# Altium integrated library Altera MAX V.IntLib: 184 symbols (part 13 of 16)
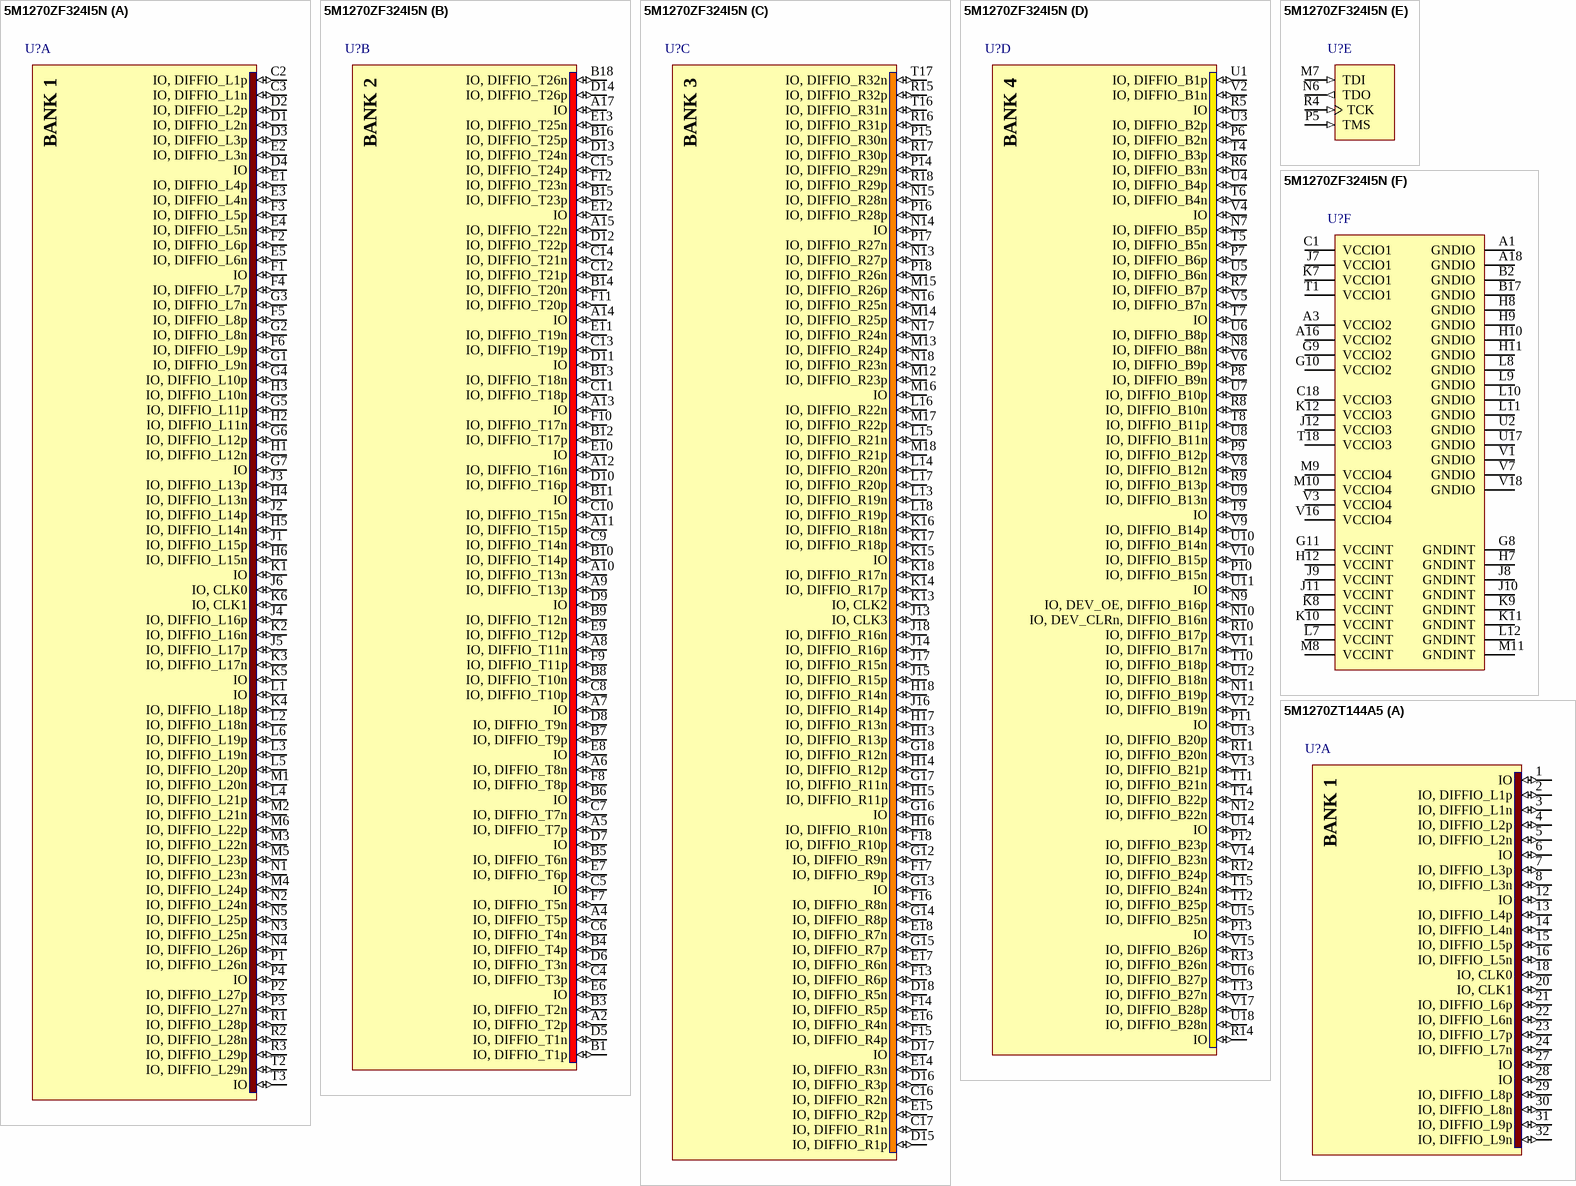
[diagram p89: symbols 5M1270ZF324I5N to 5M1270ZT144A5]

## 5M1270ZF324I5N
designator U?
MAX V 1.8V CPLD, 271 IOs, 1270 Logic Elements, 324-Pin FBGA, Industrial Temperature, Speed Grade 5, Pb-Free; DatasheetVersion: ver1.2, May-2011; PackageVersion: ver1.0, Jun-2011; PackageReference: FBGA324_A-155; PackageDescription: 324-Pin FineLine Ball-Grid Array (FBGA) - THIN - Wire Bond - A:1.55; Code_JEDEC: MO-192-DAG-1; ComponentLink1Description: Manufacturer URL; ComponentLink1URL: http://www.altera.com/; ComponentLink2Description: Datasheet; ComponentLink2URL: http://www.altera.com/literature/hb/max-v/max5_handbook.pdf; ComponentLink3Description: MAX V Device Pin-Out files; ComponentLink3URL: http://www.altera.com/literature/lit-dp.jsp?category=MAX%205&showspreadsheet=y; ComponentLink4Description: Package Specification; ComponentLink4URL: http://www.altera.com/devicepackaging/04R00232-01.pdf
footprint FBGA324_A-155 (BGA, 324-Leads, Body 19x19mm, Pitch 1mm)
part A pins: C2 IO, DIFFIO_L1p (io), C3 IO, DIFFIO_L1n (io), D1 IO, DIFFIO_L2n (io), D2 IO, DIFFIO_L2p (io), D3 IO, DIFFIO_L3p (io), D4 IO (io), E1 IO, DIFFIO_L4p (io), E2 IO, DIFFIO_L3n (io), E3 IO, DIFFIO_L4n (io), E4 IO, DIFFIO_L5n (io), E5 IO, DIFFIO_L6n (io), F1 IO (io), F2 IO, DIFFIO_L6p (io), F3 IO, DIFFIO_L5p (io), F4 IO, DIFFIO_L7p (io), F5 IO, DIFFIO_L8p (io), F6 IO, DIFFIO_L9p (io), G1 IO, DIFFIO_L9n (io), G2 IO, DIFFIO_L8n (io), G3 IO, DIFFIO_L7n (io), G4 IO, DIFFIO_L10p (io), G5 IO, DIFFIO_L11p (io), G6 IO, DIFFIO_L12p (io), G7 IO (io), H1 IO, DIFFIO_L12n (io), H2 IO, DIFFIO_L11n (io), H3 IO, DIFFIO_L10n (io), H4 IO, DIFFIO_L13n (io), H5 IO, DIFFIO_L14n (io), H6 IO, DIFFIO_L15n (io), J1 IO, DIFFIO_L15p (io), J2 IO, DIFFIO_L14p (io), J3 IO, DIFFIO_L13p (io), J4 IO, DIFFIO_L16p (io), J5 IO, DIFFIO_L17p (io), J6 IO, CLK0 (io), K1 IO (io), K2 IO, DIFFIO_L16n (io), K3 IO, DIFFIO_L17n (io), K4 IO, DIFFIO_L18p (io), K5 IO (io), K6 IO, CLK1 (io), L1 IO (io), L2 IO, DIFFIO_L18n (io), L3 IO, DIFFIO_L19n (io), L4 IO, DIFFIO_L21p (io), L5 IO, DIFFIO_L20p (io), L6 IO, DIFFIO_L19p (io), M1 IO, DIFFIO_L20n (io), M2 IO, DIFFIO_L21n (io), M3 IO, DIFFIO_L22n (io), M4 IO, DIFFIO_L24p (io), M5 IO, DIFFIO_L23p (io), M6 IO, DIFFIO_L22p (io), N1 IO, DIFFIO_L23n (io), N2 IO, DIFFIO_L24n (io), N3 IO, DIFFIO_L25n (io), N4 IO, DIFFIO_L26p (io), N5 IO, DIFFIO_L25p (io), P1 IO, DIFFIO_L26n (io), P2 IO, DIFFIO_L27p (io), P3 IO, DIFFIO_L27n (io), P4 IO (io), R1 IO, DIFFIO_L28p (io), R2 IO, DIFFIO_L28n (io), R3 IO, DIFFIO_L29p (io), T2 IO, DIFFIO_L29n (io), T3 IO (io)
part B pins: A2 IO, DIFFIO_T2p (io), A4 IO, DIFFIO_T5p (io), A5 IO, DIFFIO_T7p (io), A6 IO, DIFFIO_T8n (io), A7 IO (io), A8 IO, DIFFIO_T11n (io), A9 IO, DIFFIO_T13p (io), A10 IO, DIFFIO_T13n (io), A11 IO, DIFFIO_T15p (io), A12 IO, DIFFIO_T16n (io), A13 IO (io), A14 IO (io), A15 IO, DIFFIO_T22n (io), A17 IO (io), B1 IO, DIFFIO_T1p (io), B3 IO, DIFFIO_T2n (io), B4 IO, DIFFIO_T4p (io), B5 IO, DIFFIO_T6n (io), B6 IO (io), B7 IO, DIFFIO_T9p (io), B8 IO, DIFFIO_T10n (io), B9 IO, DIFFIO_T12n (io), B10 IO, DIFFIO_T14p (io), B11 IO (io), B12 IO, DIFFIO_T17p (io), B13 IO, DIFFIO_T18n (io), B14 IO, DIFFIO_T20n (io), B15 IO, DIFFIO_T23p (io), B16 IO, DIFFIO_T25p (io), B18 IO, DIFFIO_T26n (io), C4 IO, DIFFIO_T3p (io), C5 IO (io), C6 IO, DIFFIO_T4n (io), C7 IO, DIFFIO_T7n (io), C8 IO, DIFFIO_T10p (io), C9 IO, DIFFIO_T14n (io), C10 IO, DIFFIO_T15n (io), C11 IO, DIFFIO_T18p (io), C12 IO, DIFFIO_T21p (io), C13 IO, DIFFIO_T19p (io), C14 IO, DIFFIO_T21n (io), C15 IO, DIFFIO_T24p (io), D5 IO, DIFFIO_T1n (io), D6 IO, DIFFIO_T3n (io), D7 IO (io), D8 IO, DIFFIO_T9n (io), D9 IO (io), D10 IO, DIFFIO_T16p (io), D11 IO (io), D12 IO, DIFFIO_T22p (io), D13 IO, DIFFIO_T24n (io), D14 IO, DIFFIO_T26p (io), E6 IO (io), E7 IO, DIFFIO_T6p (io), E8 IO (io), E9 IO, DIFFIO_T12p (io), E10 IO (io), E11 IO, DIFFIO_T19n (io), E12 IO (io), E13 IO, DIFFIO_T25n (io), F7 IO, DIFFIO_T5n (io), F8 IO, DIFFIO_T8p (io), F9 IO, DIFFIO_T11p (io), F10 IO, DIFFIO_T17n (io), F11 IO, DIFFIO_T20p (io), F12 IO, DIFFIO_T23n (io)
part C pins: C16 IO, DIFFIO_R2n (io), C17 IO, DIFFIO_R1n (io), D15 IO, DIFFIO_R1p (io), D16 IO, DIFFIO_R3p (io), D17 IO (io), D18 IO, DIFFIO_R5n (io), E14 IO, DIFFIO_R3n (io), E15 IO, DIFFIO_R2p (io), E16 IO, DIFFIO_R4n (io), E17 IO, DIFFIO_R6n (io), E18 IO, DIFFIO_R7n (io), F13 IO, DIFFIO_R6p (io), F14 IO, DIFFIO_R5p (io), F15 IO, DIFFIO_R4p (io), F16 IO, DIFFIO_R8n (io), F17 IO, DIFFIO_R9p (io), F18 IO, DIFFIO_R10p (io), G12 IO, DIFFIO_R9n (io), G13 IO (io), G14 IO, DIFFIO_R8p (io), G15 IO, DIFFIO_R7p (io), G16 IO (io), G17 IO, DIFFIO_R11n (io), G18 IO, DIFFIO_R12n (io), H13 IO, DIFFIO_R13p (io), H14 IO, DIFFIO_R12p (io), H15 IO, DIFFIO_R11p (io), H16 IO, DIFFIO_R10n (io), H17 IO, DIFFIO_R13n (io), H18 IO, DIFFIO_R14n (io), J13 IO, CLK3 (io), J14 IO, DIFFIO_R16p (io), J15 IO, DIFFIO_R15p (io), J16 IO, DIFFIO_R14p (io), J17 IO, DIFFIO_R15n (io), J18 IO, DIFFIO_R16n (io), K13 IO, CLK2 (io), K14 IO, DIFFIO_R17p (io), K15 IO (io), K16 IO, DIFFIO_R18n (io), K17 IO, DIFFIO_R18p (io), K18 IO, DIFFIO_R17n (io), L13 IO, DIFFIO_R19n (io), L14 IO, DIFFIO_R20n (io), L15 IO, DIFFIO_R21n (io), L16 IO, DIFFIO_R22n (io), L17 IO, DIFFIO_R20p (io), L18 IO, DIFFIO_R19p (io), M12 IO, DIFFIO_R23p (io), M13 IO, DIFFIO_R24p (io), M14 IO, DIFFIO_R25p (io), M15 IO, DIFFIO_R26p (io), M16 IO (io), M17 IO, DIFFIO_R22p (io), M18 IO, DIFFIO_R21p (io), N13 IO, DIFFIO_R27p (io), N14 IO (io), N15 IO, DIFFIO_R28n (io), N16 IO, DIFFIO_R25n (io), N17 IO, DIFFIO_R24n (io), N18 IO, DIFFIO_R23n (io), P14 IO, DIFFIO_R29n (io), P15 IO, DIFFIO_R30n (io), P16 IO, DIFFIO_R28p (io), P17 IO, DIFFIO_R27n (io), P18 IO, DIFFIO_R26n (io), R15 IO, DIFFIO_R32p (io), R16 IO, DIFFIO_R31p (io), R17 IO, DIFFIO_R30p (io), R18 IO, DIFFIO_R29p (io), T16 IO, DIFFIO_R31n (io), T17 IO, DIFFIO_R32n (io)
part D pins: N7 IO, DIFFIO_B5p (io), N8 IO, DIFFIO_B8n (io), N9 IO, DEV_OE, DIFFIO_B16p (io), N10 IO, DEV_CLRn, DIFFIO_B16n (io), N11 IO, DIFFIO_B19p (io), N12 IO, DIFFIO_B22n (io), P6 IO, DIFFIO_B2n (io), P7 IO, DIFFIO_B6p (io), P8 IO, DIFFIO_B9n (io), P9 IO, DIFFIO_B12p (io), P10 IO, DIFFIO_B15n (io), P11 IO (io), P12 IO, DIFFIO_B23p (io), P13 IO (io), R5 IO (io), R6 IO, DIFFIO_B3n (io), R7 IO, DIFFIO_B7p (io), R8 IO, DIFFIO_B10n (io), R9 IO, DIFFIO_B13p (io), R10 IO, DIFFIO_B17p (io), R11 IO, DIFFIO_B20n (io), R12 IO, DIFFIO_B24p (io), R13 IO, DIFFIO_B26n (io), R14 IO (io), T4 IO, DIFFIO_B3p (io), T5 IO, DIFFIO_B5n (io), T6 IO, DIFFIO_B4n (io), T7 IO (io), T8 IO, DIFFIO_B11p (io), T9 IO (io), T10 IO, DIFFIO_B18p (io), T11 IO, DIFFIO_B21n (io), T12 IO, DIFFIO_B25p (io), T13 IO, DIFFIO_B27n (io), T14 IO, DIFFIO_B22p (io), T15 IO, DIFFIO_B24n (io), U1 IO, DIFFIO_B1p (io), U3 IO, DIFFIO_B2p (io), U4 IO, DIFFIO_B4p (io), U5 IO, DIFFIO_B6n (io), U6 IO, DIFFIO_B8p (io), U7 IO, DIFFIO_B10p (io), U8 IO, DIFFIO_B11n (io), U9 IO, DIFFIO_B13n (io), U10 IO, DIFFIO_B14n (io), U11 IO (io), U12 IO, DIFFIO_B18n (io), U13 IO, DIFFIO_B20p (io), U14 IO (io), U15 IO, DIFFIO_B25n (io), U16 IO, DIFFIO_B27p (io), U18 IO, DIFFIO_B28n (io), V2 IO, DIFFIO_B1n (io), V4 IO (io), V5 IO, DIFFIO_B7n (io), V6 IO, DIFFIO_B9p (io), V8 IO, DIFFIO_B12n (io), V9 IO, DIFFIO_B14p (io), V10 IO, DIFFIO_B15p (io), V11 IO, DIFFIO_B17n (io), V12 IO, DIFFIO_B19n (io), V13 IO, DIFFIO_B21p (io), V14 IO, DIFFIO_B23n (io), V15 IO, DIFFIO_B26p (io), V17 IO, DIFFIO_B28p (io)
part E pins: M7 TDI (in), N6 TDO (out), P5 TMS (in), R4 TCK (in)
part F pins: A1 GNDIO (power), A3 VCCIO2 (power), A16 VCCIO2 (power), A18 GNDIO (power), B2 GNDIO (power), B17 GNDIO (power), C1 VCCIO1 (power), C18 VCCIO3 (power), G8 GNDINT (power), G9 VCCIO2 (power), G10 VCCIO2 (power), G11 VCCINT (power), H7 GNDINT (power), H8 GNDIO (power), H9 GNDIO (power), H10 GNDIO (power), H11 GNDIO (power), H12 VCCINT (power), J7 VCCIO1 (power), J8 GNDINT (power), J9 VCCINT (power), J10 GNDINT (power), J11 VCCINT (power), J12 VCCIO3 (power), K7 VCCIO1 (power), K8 VCCINT (power), K9 GNDINT (power), K10 VCCINT (power), K11 GNDINT (power), K12 VCCIO3 (power), L7 VCCINT (power), L8 GNDIO (power), L9 GNDIO (power), L10 GNDIO (power), L11 GNDIO (power), L12 GNDINT (power), M8 VCCINT (power), M9 VCCIO4 (power), M10 VCCIO4 (power), M11 GNDINT (power), T1 VCCIO1 (power), T18 VCCIO3 (power), U2 GNDIO (power), U17 GNDIO (power), V1 GNDIO (power), V3 VCCIO4 (power), V7 GNDIO (power), V16 VCCIO4 (power), V18 GNDIO (power)
part A text: BANK 1
part B text: BANK 2
part C text: BANK 3
part D text: BANK 4

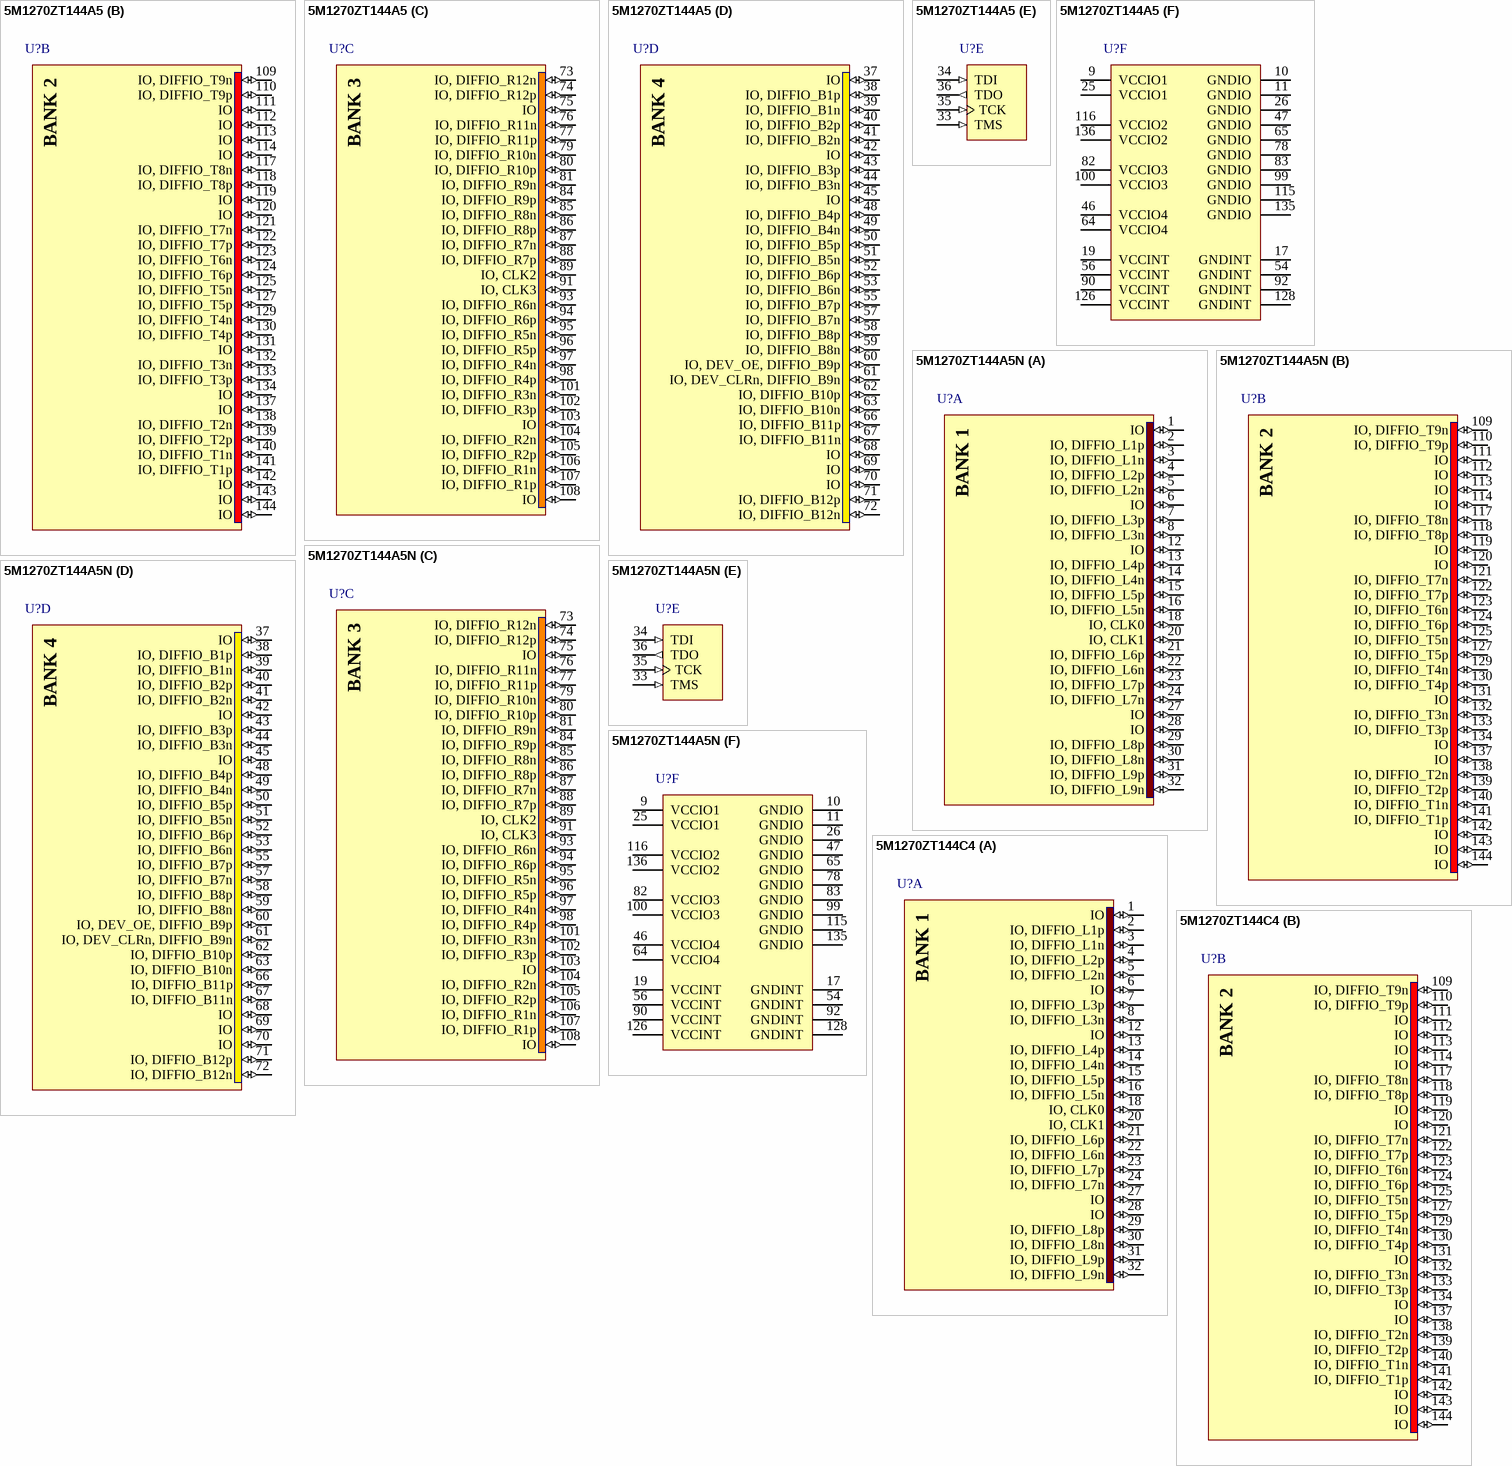
[diagram p59: symbols 5M1270ZT144A5 to 5M1270ZT144C4]

## 5M1270ZT144A5
designator U?
MAX V 1.8V CPLD, 114 IOs, 1270 Logic Elements, 144-Pin TQFP, Automotive Temperature, Speed Grade 5; DatasheetVersion: ver1.2, May-2011; PackageVersion: ver1.0, Jul-2011; PackageReference: TQFP144_A-160; PackageDescription: 144-Pin Plastic Thin Quad Flat Pack (TQFP) - Wire Bond - A:1.60; Code_JEDEC: MS-029-BFB; ComponentLink1Description: Manufacturer URL; ComponentLink1URL: http://www.altera.com/; ComponentLink2Description: Datasheet; ComponentLink2URL: http://www.altera.com/literature/hb/max-v/max5_handbook.pdf; ComponentLink3Description: MAX V Device Pin-Out files; ComponentLink3URL: http://www.altera.com/literature/lit-dp.jsp?category=MAX%205&showspreadsheet=y; ComponentLink4Description: Package Specification; ComponentLink4URL: http://www.altera.com/devicepackaging/04R00366-01.pdf
footprint TQFP144_A-160_N (Thin QFP, 144-Leads, Body 20x20mm, Pitch 0.5mm, IPC Medium Density)
footprint TQFP144_A-160_L (Thin QFP, 144-Leads, Body 20x20mm, Pitch 0.5mm, IPC High Density)
footprint TQFP144_A-160_M (Thin QFP, 144-Leads, Body 20x20mm, Pitch 0.5mm, IPC Low Density)
part A pins: 1 IO (io), 2 IO, DIFFIO_L1p (io), 3 IO, DIFFIO_L1n (io), 4 IO, DIFFIO_L2p (io), 5 IO, DIFFIO_L2n (io), 6 IO (io), 7 IO, DIFFIO_L3p (io), 8 IO, DIFFIO_L3n (io), 12 IO (io), 13 IO, DIFFIO_L4p (io), 14 IO, DIFFIO_L4n (io), 15 IO, DIFFIO_L5p (io), 16 IO, DIFFIO_L5n (io), 18 IO, CLK0 (io), 20 IO, CLK1 (io), 21 IO, DIFFIO_L6p (io), 22 IO, DIFFIO_L6n (io), 23 IO, DIFFIO_L7p (io), 24 IO, DIFFIO_L7n (io), 27 IO (io), 28 IO (io), 29 IO, DIFFIO_L8p (io), 30 IO, DIFFIO_L8n (io), 31 IO, DIFFIO_L9p (io), 32 IO, DIFFIO_L9n (io)
part B pins: 109 IO, DIFFIO_T9n (io), 110 IO, DIFFIO_T9p (io), 111 IO (io), 112 IO (io), 113 IO (io), 114 IO (io), 117 IO, DIFFIO_T8n (io), 118 IO, DIFFIO_T8p (io), 119 IO (io), 120 IO (io), 121 IO, DIFFIO_T7n (io), 122 IO, DIFFIO_T7p (io), 123 IO, DIFFIO_T6n (io), 124 IO, DIFFIO_T6p (io), 125 IO, DIFFIO_T5n (io), 127 IO, DIFFIO_T5p (io), 129 IO, DIFFIO_T4n (io), 130 IO, DIFFIO_T4p (io), 131 IO (io), 132 IO, DIFFIO_T3n (io), 133 IO, DIFFIO_T3p (io), 134 IO (io), 137 IO (io), 138 IO, DIFFIO_T2n (io), 139 IO, DIFFIO_T2p (io), 140 IO, DIFFIO_T1n (io), 141 IO, DIFFIO_T1p (io), 142 IO (io), 143 IO (io), 144 IO (io)
part C pins: 73 IO, DIFFIO_R12n (io), 74 IO, DIFFIO_R12p (io), 75 IO (io), 76 IO, DIFFIO_R11n (io), 77 IO, DIFFIO_R11p (io), 79 IO, DIFFIO_R10n (io), 80 IO, DIFFIO_R10p (io), 81 IO, DIFFIO_R9n (io), 84 IO, DIFFIO_R9p (io), 85 IO, DIFFIO_R8n (io), 86 IO, DIFFIO_R8p (io), 87 IO, DIFFIO_R7n (io), 88 IO, DIFFIO_R7p (io), 89 IO, CLK2 (io), 91 IO, CLK3 (io), 93 IO, DIFFIO_R6n (io), 94 IO, DIFFIO_R6p (io), 95 IO, DIFFIO_R5n (io), 96 IO, DIFFIO_R5p (io), 97 IO, DIFFIO_R4n (io), 98 IO, DIFFIO_R4p (io), 101 IO, DIFFIO_R3n (io), 102 IO, DIFFIO_R3p (io), 103 IO (io), 104 IO, DIFFIO_R2n (io), 105 IO, DIFFIO_R2p (io), 106 IO, DIFFIO_R1n (io), 107 IO, DIFFIO_R1p (io), 108 IO (io)
part D pins: 37 IO (io), 38 IO, DIFFIO_B1p (io), 39 IO, DIFFIO_B1n (io), 40 IO, DIFFIO_B2p (io), 41 IO, DIFFIO_B2n (io), 42 IO (io), 43 IO, DIFFIO_B3p (io), 44 IO, DIFFIO_B3n (io), 45 IO (io), 48 IO, DIFFIO_B4p (io), 49 IO, DIFFIO_B4n (io), 50 IO, DIFFIO_B5p (io), 51 IO, DIFFIO_B5n (io), 52 IO, DIFFIO_B6p (io), 53 IO, DIFFIO_B6n (io), 55 IO, DIFFIO_B7p (io), 57 IO, DIFFIO_B7n (io), 58 IO, DIFFIO_B8p (io), 59 IO, DIFFIO_B8n (io), 60 IO, DEV_OE, DIFFIO_B9p (io), 61 IO, DEV_CLRn, DIFFIO_B9n (io), 62 IO, DIFFIO_B10p (io), 63 IO, DIFFIO_B10n (io), 66 IO, DIFFIO_B11p (io), 67 IO, DIFFIO_B11n (io), 68 IO (io), 69 IO (io), 70 IO (io), 71 IO, DIFFIO_B12p (io), 72 IO, DIFFIO_B12n (io)
part E pins: 33 TMS (in), 34 TDI (in), 35 TCK (in), 36 TDO (out)
part F pins: 9 VCCIO1 (power), 10 GNDIO (power), 11 GNDIO (power), 17 GNDINT (power), 19 VCCINT (power), 25 VCCIO1 (power), 26 GNDIO (power), 46 VCCIO4 (power), 47 GNDIO (power), 54 GNDINT (power), 56 VCCINT (power), 64 VCCIO4 (power), 65 GNDIO (power), 78 GNDIO (power), 82 VCCIO3 (power), 83 GNDIO (power), 90 VCCINT (power), 92 GNDINT (power), 99 GNDIO (power), 100 VCCIO3 (power), 115 GNDIO (power), 116 VCCIO2 (power), 126 VCCINT (power), 128 GNDINT (power), 135 GNDIO (power), 136 VCCIO2 (power)
part A text: BANK 1
part B text: BANK 2
part C text: BANK 3
part D text: BANK 4

## 5M1270ZT144A5N
designator U?
MAX V 1.8V CPLD, 114 IOs, 1270 Logic Elements, 144-Pin TQFP, Automotive Temperature, Speed Grade 5, Pb-Free; DatasheetVersion: ver1.2, May-2011; PackageVersion: ver1.0, Jul-2011; PackageReference: TQFP144_A-160; PackageDescription: 144-Pin Plastic Thin Quad Flat Pack (TQFP) - Wire Bond - A:1.60; Code_JEDEC: MS-029-BFB; ComponentLink1Description: Manufacturer URL; ComponentLink1URL: http://www.altera.com/; ComponentLink2Description: Datasheet; ComponentLink2URL: http://www.altera.com/literature/hb/max-v/max5_handbook.pdf; ComponentLink3Description: MAX V Device Pin-Out files; ComponentLink3URL: http://www.altera.com/literature/lit-dp.jsp?category=MAX%205&showspreadsheet=y; ComponentLink4Description: Package Specification; ComponentLink4URL: http://www.altera.com/devicepackaging/04R00366-01.pdf
footprint TQFP144_A-160_N (Thin QFP, 144-Leads, Body 20x20mm, Pitch 0.5mm, IPC Medium Density)
footprint TQFP144_A-160_L (Thin QFP, 144-Leads, Body 20x20mm, Pitch 0.5mm, IPC High Density)
footprint TQFP144_A-160_M (Thin QFP, 144-Leads, Body 20x20mm, Pitch 0.5mm, IPC Low Density)
part A pins: 1 IO (io), 2 IO, DIFFIO_L1p (io), 3 IO, DIFFIO_L1n (io), 4 IO, DIFFIO_L2p (io), 5 IO, DIFFIO_L2n (io), 6 IO (io), 7 IO, DIFFIO_L3p (io), 8 IO, DIFFIO_L3n (io), 12 IO (io), 13 IO, DIFFIO_L4p (io), 14 IO, DIFFIO_L4n (io), 15 IO, DIFFIO_L5p (io), 16 IO, DIFFIO_L5n (io), 18 IO, CLK0 (io), 20 IO, CLK1 (io), 21 IO, DIFFIO_L6p (io), 22 IO, DIFFIO_L6n (io), 23 IO, DIFFIO_L7p (io), 24 IO, DIFFIO_L7n (io), 27 IO (io), 28 IO (io), 29 IO, DIFFIO_L8p (io), 30 IO, DIFFIO_L8n (io), 31 IO, DIFFIO_L9p (io), 32 IO, DIFFIO_L9n (io)
part B pins: 109 IO, DIFFIO_T9n (io), 110 IO, DIFFIO_T9p (io), 111 IO (io), 112 IO (io), 113 IO (io), 114 IO (io), 117 IO, DIFFIO_T8n (io), 118 IO, DIFFIO_T8p (io), 119 IO (io), 120 IO (io), 121 IO, DIFFIO_T7n (io), 122 IO, DIFFIO_T7p (io), 123 IO, DIFFIO_T6n (io), 124 IO, DIFFIO_T6p (io), 125 IO, DIFFIO_T5n (io), 127 IO, DIFFIO_T5p (io), 129 IO, DIFFIO_T4n (io), 130 IO, DIFFIO_T4p (io), 131 IO (io), 132 IO, DIFFIO_T3n (io), 133 IO, DIFFIO_T3p (io), 134 IO (io), 137 IO (io), 138 IO, DIFFIO_T2n (io), 139 IO, DIFFIO_T2p (io), 140 IO, DIFFIO_T1n (io), 141 IO, DIFFIO_T1p (io), 142 IO (io), 143 IO (io), 144 IO (io)
part C pins: 73 IO, DIFFIO_R12n (io), 74 IO, DIFFIO_R12p (io), 75 IO (io), 76 IO, DIFFIO_R11n (io), 77 IO, DIFFIO_R11p (io), 79 IO, DIFFIO_R10n (io), 80 IO, DIFFIO_R10p (io), 81 IO, DIFFIO_R9n (io), 84 IO, DIFFIO_R9p (io), 85 IO, DIFFIO_R8n (io), 86 IO, DIFFIO_R8p (io), 87 IO, DIFFIO_R7n (io), 88 IO, DIFFIO_R7p (io), 89 IO, CLK2 (io), 91 IO, CLK3 (io), 93 IO, DIFFIO_R6n (io), 94 IO, DIFFIO_R6p (io), 95 IO, DIFFIO_R5n (io), 96 IO, DIFFIO_R5p (io), 97 IO, DIFFIO_R4n (io), 98 IO, DIFFIO_R4p (io), 101 IO, DIFFIO_R3n (io), 102 IO, DIFFIO_R3p (io), 103 IO (io), 104 IO, DIFFIO_R2n (io), 105 IO, DIFFIO_R2p (io), 106 IO, DIFFIO_R1n (io), 107 IO, DIFFIO_R1p (io), 108 IO (io)
part D pins: 37 IO (io), 38 IO, DIFFIO_B1p (io), 39 IO, DIFFIO_B1n (io), 40 IO, DIFFIO_B2p (io), 41 IO, DIFFIO_B2n (io), 42 IO (io), 43 IO, DIFFIO_B3p (io), 44 IO, DIFFIO_B3n (io), 45 IO (io), 48 IO, DIFFIO_B4p (io), 49 IO, DIFFIO_B4n (io), 50 IO, DIFFIO_B5p (io), 51 IO, DIFFIO_B5n (io), 52 IO, DIFFIO_B6p (io), 53 IO, DIFFIO_B6n (io), 55 IO, DIFFIO_B7p (io), 57 IO, DIFFIO_B7n (io), 58 IO, DIFFIO_B8p (io), 59 IO, DIFFIO_B8n (io), 60 IO, DEV_OE, DIFFIO_B9p (io), 61 IO, DEV_CLRn, DIFFIO_B9n (io), 62 IO, DIFFIO_B10p (io), 63 IO, DIFFIO_B10n (io), 66 IO, DIFFIO_B11p (io), 67 IO, DIFFIO_B11n (io), 68 IO (io), 69 IO (io), 70 IO (io), 71 IO, DIFFIO_B12p (io), 72 IO, DIFFIO_B12n (io)
part E pins: 33 TMS (in), 34 TDI (in), 35 TCK (in), 36 TDO (out)
part F pins: 9 VCCIO1 (power), 10 GNDIO (power), 11 GNDIO (power), 17 GNDINT (power), 19 VCCINT (power), 25 VCCIO1 (power), 26 GNDIO (power), 46 VCCIO4 (power), 47 GNDIO (power), 54 GNDINT (power), 56 VCCINT (power), 64 VCCIO4 (power), 65 GNDIO (power), 78 GNDIO (power), 82 VCCIO3 (power), 83 GNDIO (power), 90 VCCINT (power), 92 GNDINT (power), 99 GNDIO (power), 100 VCCIO3 (power), 115 GNDIO (power), 116 VCCIO2 (power), 126 VCCINT (power), 128 GNDINT (power), 135 GNDIO (power), 136 VCCIO2 (power)
part A text: BANK 1
part B text: BANK 2
part C text: BANK 3
part D text: BANK 4

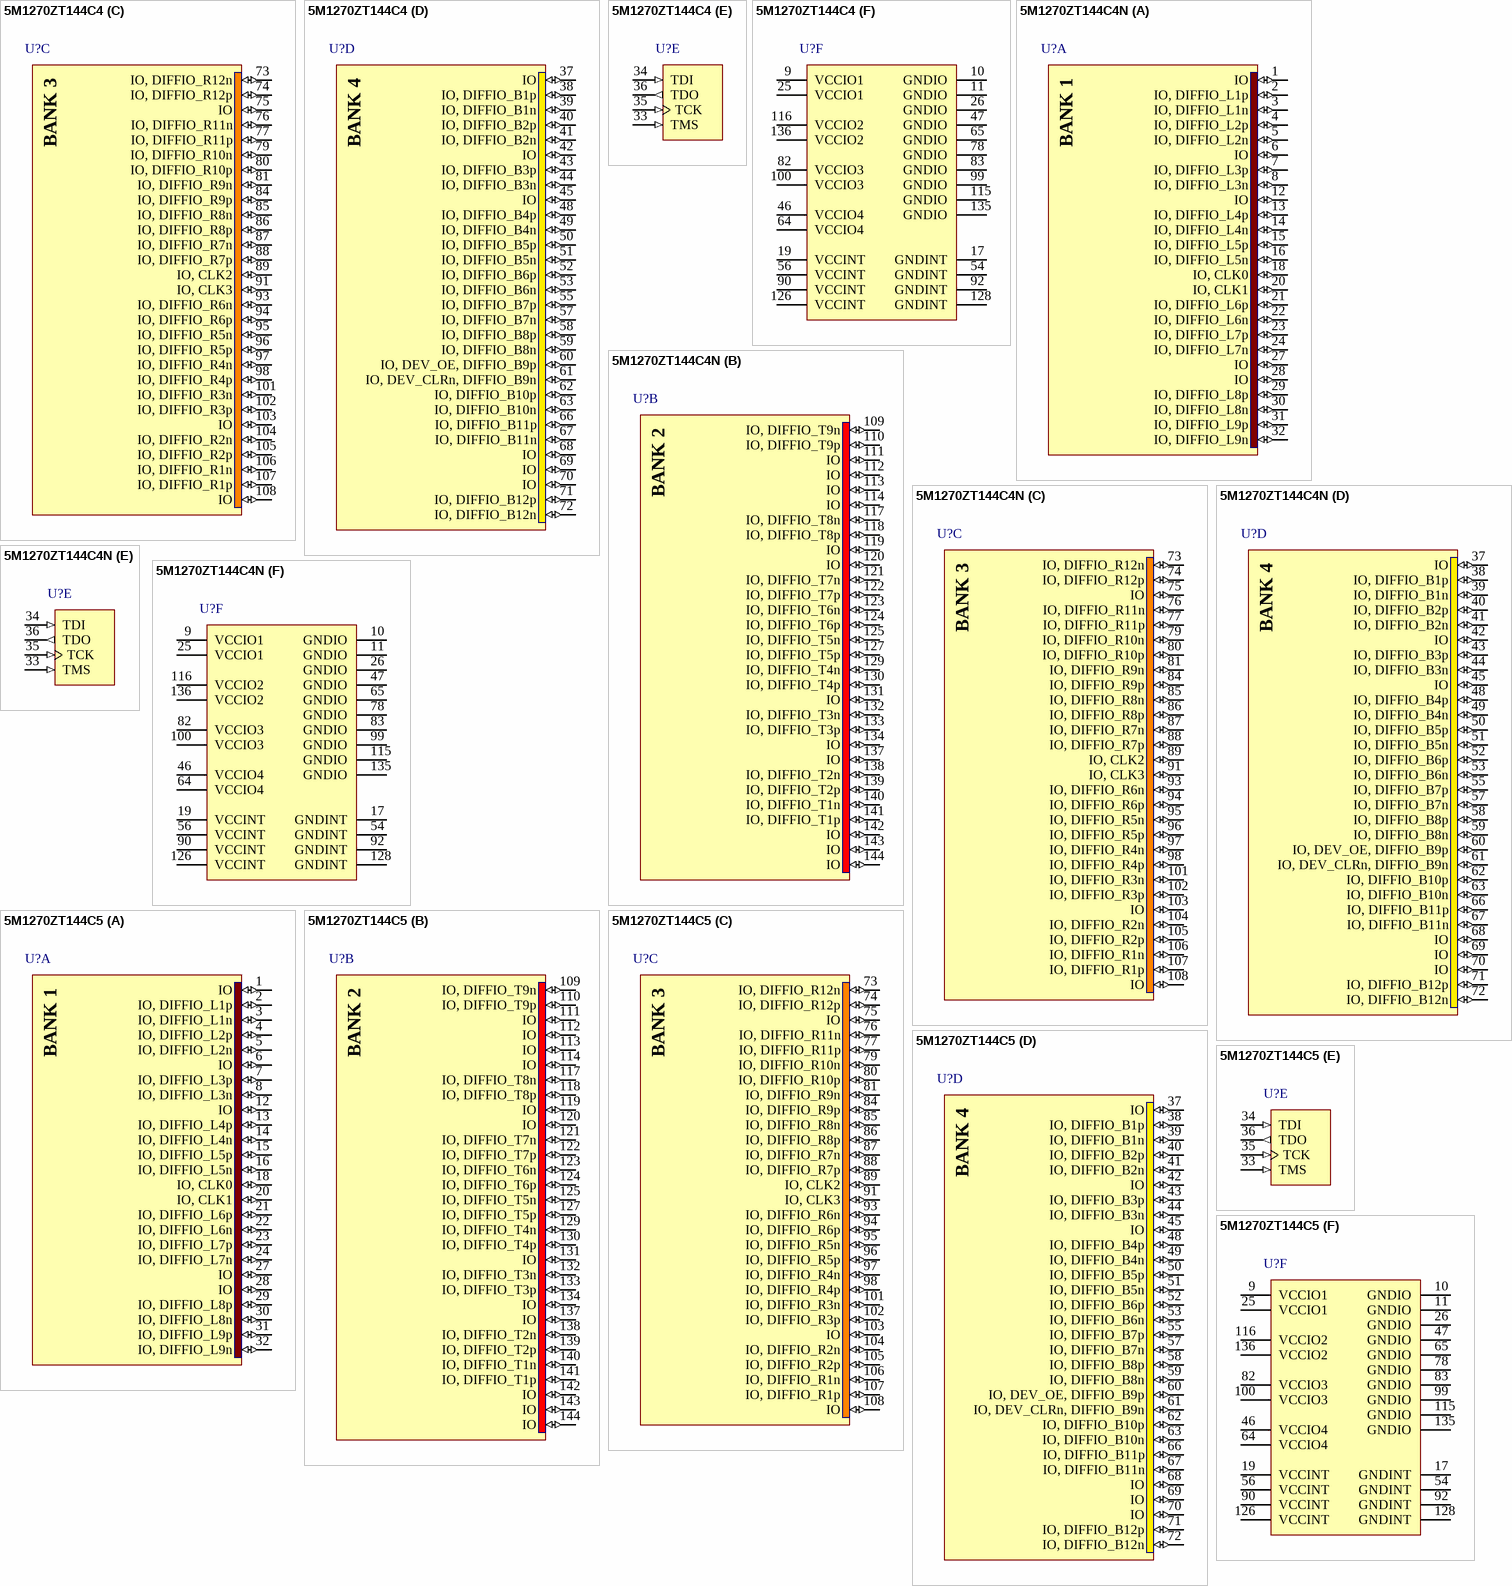
[diagram p60: symbols 5M1270ZT144C4 to 5M1270ZT144C5]

## 5M1270ZT144C4
designator U?
MAX V 1.8V CPLD, 114 IOs, 1270 Logic Elements, 144-Pin TQFP, Commercial Temperature, Speed Grade 4; DatasheetVersion: ver1.2, May-2011; PackageVersion: ver1.0, Jul-2011; PackageReference: TQFP144_A-160; PackageDescription: 144-Pin Plastic Thin Quad Flat Pack (TQFP) - Wire Bond - A:1.60; Code_JEDEC: MS-029-BFB; ComponentLink1Description: Manufacturer URL; ComponentLink1URL: http://www.altera.com/; ComponentLink2Description: Datasheet; ComponentLink2URL: http://www.altera.com/literature/hb/max-v/max5_handbook.pdf; ComponentLink3Description: MAX V Device Pin-Out files; ComponentLink3URL: http://www.altera.com/literature/lit-dp.jsp?category=MAX%205&showspreadsheet=y; ComponentLink4Description: Package Specification; ComponentLink4URL: http://www.altera.com/devicepackaging/04R00366-01.pdf
footprint TQFP144_A-160_N (Thin QFP, 144-Leads, Body 20x20mm, Pitch 0.5mm, IPC Medium Density)
footprint TQFP144_A-160_L (Thin QFP, 144-Leads, Body 20x20mm, Pitch 0.5mm, IPC High Density)
footprint TQFP144_A-160_M (Thin QFP, 144-Leads, Body 20x20mm, Pitch 0.5mm, IPC Low Density)
part A pins: 1 IO (io), 2 IO, DIFFIO_L1p (io), 3 IO, DIFFIO_L1n (io), 4 IO, DIFFIO_L2p (io), 5 IO, DIFFIO_L2n (io), 6 IO (io), 7 IO, DIFFIO_L3p (io), 8 IO, DIFFIO_L3n (io), 12 IO (io), 13 IO, DIFFIO_L4p (io), 14 IO, DIFFIO_L4n (io), 15 IO, DIFFIO_L5p (io), 16 IO, DIFFIO_L5n (io), 18 IO, CLK0 (io), 20 IO, CLK1 (io), 21 IO, DIFFIO_L6p (io), 22 IO, DIFFIO_L6n (io), 23 IO, DIFFIO_L7p (io), 24 IO, DIFFIO_L7n (io), 27 IO (io), 28 IO (io), 29 IO, DIFFIO_L8p (io), 30 IO, DIFFIO_L8n (io), 31 IO, DIFFIO_L9p (io), 32 IO, DIFFIO_L9n (io)
part B pins: 109 IO, DIFFIO_T9n (io), 110 IO, DIFFIO_T9p (io), 111 IO (io), 112 IO (io), 113 IO (io), 114 IO (io), 117 IO, DIFFIO_T8n (io), 118 IO, DIFFIO_T8p (io), 119 IO (io), 120 IO (io), 121 IO, DIFFIO_T7n (io), 122 IO, DIFFIO_T7p (io), 123 IO, DIFFIO_T6n (io), 124 IO, DIFFIO_T6p (io), 125 IO, DIFFIO_T5n (io), 127 IO, DIFFIO_T5p (io), 129 IO, DIFFIO_T4n (io), 130 IO, DIFFIO_T4p (io), 131 IO (io), 132 IO, DIFFIO_T3n (io), 133 IO, DIFFIO_T3p (io), 134 IO (io), 137 IO (io), 138 IO, DIFFIO_T2n (io), 139 IO, DIFFIO_T2p (io), 140 IO, DIFFIO_T1n (io), 141 IO, DIFFIO_T1p (io), 142 IO (io), 143 IO (io), 144 IO (io)
part C pins: 73 IO, DIFFIO_R12n (io), 74 IO, DIFFIO_R12p (io), 75 IO (io), 76 IO, DIFFIO_R11n (io), 77 IO, DIFFIO_R11p (io), 79 IO, DIFFIO_R10n (io), 80 IO, DIFFIO_R10p (io), 81 IO, DIFFIO_R9n (io), 84 IO, DIFFIO_R9p (io), 85 IO, DIFFIO_R8n (io), 86 IO, DIFFIO_R8p (io), 87 IO, DIFFIO_R7n (io), 88 IO, DIFFIO_R7p (io), 89 IO, CLK2 (io), 91 IO, CLK3 (io), 93 IO, DIFFIO_R6n (io), 94 IO, DIFFIO_R6p (io), 95 IO, DIFFIO_R5n (io), 96 IO, DIFFIO_R5p (io), 97 IO, DIFFIO_R4n (io), 98 IO, DIFFIO_R4p (io), 101 IO, DIFFIO_R3n (io), 102 IO, DIFFIO_R3p (io), 103 IO (io), 104 IO, DIFFIO_R2n (io), 105 IO, DIFFIO_R2p (io), 106 IO, DIFFIO_R1n (io), 107 IO, DIFFIO_R1p (io), 108 IO (io)
part D pins: 37 IO (io), 38 IO, DIFFIO_B1p (io), 39 IO, DIFFIO_B1n (io), 40 IO, DIFFIO_B2p (io), 41 IO, DIFFIO_B2n (io), 42 IO (io), 43 IO, DIFFIO_B3p (io), 44 IO, DIFFIO_B3n (io), 45 IO (io), 48 IO, DIFFIO_B4p (io), 49 IO, DIFFIO_B4n (io), 50 IO, DIFFIO_B5p (io), 51 IO, DIFFIO_B5n (io), 52 IO, DIFFIO_B6p (io), 53 IO, DIFFIO_B6n (io), 55 IO, DIFFIO_B7p (io), 57 IO, DIFFIO_B7n (io), 58 IO, DIFFIO_B8p (io), 59 IO, DIFFIO_B8n (io), 60 IO, DEV_OE, DIFFIO_B9p (io), 61 IO, DEV_CLRn, DIFFIO_B9n (io), 62 IO, DIFFIO_B10p (io), 63 IO, DIFFIO_B10n (io), 66 IO, DIFFIO_B11p (io), 67 IO, DIFFIO_B11n (io), 68 IO (io), 69 IO (io), 70 IO (io), 71 IO, DIFFIO_B12p (io), 72 IO, DIFFIO_B12n (io)
part E pins: 33 TMS (in), 34 TDI (in), 35 TCK (in), 36 TDO (out)
part F pins: 9 VCCIO1 (power), 10 GNDIO (power), 11 GNDIO (power), 17 GNDINT (power), 19 VCCINT (power), 25 VCCIO1 (power), 26 GNDIO (power), 46 VCCIO4 (power), 47 GNDIO (power), 54 GNDINT (power), 56 VCCINT (power), 64 VCCIO4 (power), 65 GNDIO (power), 78 GNDIO (power), 82 VCCIO3 (power), 83 GNDIO (power), 90 VCCINT (power), 92 GNDINT (power), 99 GNDIO (power), 100 VCCIO3 (power), 115 GNDIO (power), 116 VCCIO2 (power), 126 VCCINT (power), 128 GNDINT (power), 135 GNDIO (power), 136 VCCIO2 (power)
part A text: BANK 1
part B text: BANK 2
part C text: BANK 3
part D text: BANK 4

## 5M1270ZT144C4N
designator U?
MAX V 1.8V CPLD, 114 IOs, 1270 Logic Elements, 144-Pin TQFP, Commercial Temperature, Speed Grade 4, Pb-Free; DatasheetVersion: ver1.2, May-2011; PackageVersion: ver1.0, Jul-2011; PackageReference: TQFP144_A-160; PackageDescription: 144-Pin Plastic Thin Quad Flat Pack (TQFP) - Wire Bond - A:1.60; Code_JEDEC: MS-029-BFB; ComponentLink1Description: Manufacturer URL; ComponentLink1URL: http://www.altera.com/; ComponentLink2Description: Datasheet; ComponentLink2URL: http://www.altera.com/literature/hb/max-v/max5_handbook.pdf; ComponentLink3Description: MAX V Device Pin-Out files; ComponentLink3URL: http://www.altera.com/literature/lit-dp.jsp?category=MAX%205&showspreadsheet=y; ComponentLink4Description: Package Specification; ComponentLink4URL: http://www.altera.com/devicepackaging/04R00366-01.pdf
footprint TQFP144_A-160_N (Thin QFP, 144-Leads, Body 20x20mm, Pitch 0.5mm, IPC Medium Density)
footprint TQFP144_A-160_L (Thin QFP, 144-Leads, Body 20x20mm, Pitch 0.5mm, IPC High Density)
footprint TQFP144_A-160_M (Thin QFP, 144-Leads, Body 20x20mm, Pitch 0.5mm, IPC Low Density)
part A pins: 1 IO (io), 2 IO, DIFFIO_L1p (io), 3 IO, DIFFIO_L1n (io), 4 IO, DIFFIO_L2p (io), 5 IO, DIFFIO_L2n (io), 6 IO (io), 7 IO, DIFFIO_L3p (io), 8 IO, DIFFIO_L3n (io), 12 IO (io), 13 IO, DIFFIO_L4p (io), 14 IO, DIFFIO_L4n (io), 15 IO, DIFFIO_L5p (io), 16 IO, DIFFIO_L5n (io), 18 IO, CLK0 (io), 20 IO, CLK1 (io), 21 IO, DIFFIO_L6p (io), 22 IO, DIFFIO_L6n (io), 23 IO, DIFFIO_L7p (io), 24 IO, DIFFIO_L7n (io), 27 IO (io), 28 IO (io), 29 IO, DIFFIO_L8p (io), 30 IO, DIFFIO_L8n (io), 31 IO, DIFFIO_L9p (io), 32 IO, DIFFIO_L9n (io)
part B pins: 109 IO, DIFFIO_T9n (io), 110 IO, DIFFIO_T9p (io), 111 IO (io), 112 IO (io), 113 IO (io), 114 IO (io), 117 IO, DIFFIO_T8n (io), 118 IO, DIFFIO_T8p (io), 119 IO (io), 120 IO (io), 121 IO, DIFFIO_T7n (io), 122 IO, DIFFIO_T7p (io), 123 IO, DIFFIO_T6n (io), 124 IO, DIFFIO_T6p (io), 125 IO, DIFFIO_T5n (io), 127 IO, DIFFIO_T5p (io), 129 IO, DIFFIO_T4n (io), 130 IO, DIFFIO_T4p (io), 131 IO (io), 132 IO, DIFFIO_T3n (io), 133 IO, DIFFIO_T3p (io), 134 IO (io), 137 IO (io), 138 IO, DIFFIO_T2n (io), 139 IO, DIFFIO_T2p (io), 140 IO, DIFFIO_T1n (io), 141 IO, DIFFIO_T1p (io), 142 IO (io), 143 IO (io), 144 IO (io)
part C pins: 73 IO, DIFFIO_R12n (io), 74 IO, DIFFIO_R12p (io), 75 IO (io), 76 IO, DIFFIO_R11n (io), 77 IO, DIFFIO_R11p (io), 79 IO, DIFFIO_R10n (io), 80 IO, DIFFIO_R10p (io), 81 IO, DIFFIO_R9n (io), 84 IO, DIFFIO_R9p (io), 85 IO, DIFFIO_R8n (io), 86 IO, DIFFIO_R8p (io), 87 IO, DIFFIO_R7n (io), 88 IO, DIFFIO_R7p (io), 89 IO, CLK2 (io), 91 IO, CLK3 (io), 93 IO, DIFFIO_R6n (io), 94 IO, DIFFIO_R6p (io), 95 IO, DIFFIO_R5n (io), 96 IO, DIFFIO_R5p (io), 97 IO, DIFFIO_R4n (io), 98 IO, DIFFIO_R4p (io), 101 IO, DIFFIO_R3n (io), 102 IO, DIFFIO_R3p (io), 103 IO (io), 104 IO, DIFFIO_R2n (io), 105 IO, DIFFIO_R2p (io), 106 IO, DIFFIO_R1n (io), 107 IO, DIFFIO_R1p (io), 108 IO (io)
part D pins: 37 IO (io), 38 IO, DIFFIO_B1p (io), 39 IO, DIFFIO_B1n (io), 40 IO, DIFFIO_B2p (io), 41 IO, DIFFIO_B2n (io), 42 IO (io), 43 IO, DIFFIO_B3p (io), 44 IO, DIFFIO_B3n (io), 45 IO (io), 48 IO, DIFFIO_B4p (io), 49 IO, DIFFIO_B4n (io), 50 IO, DIFFIO_B5p (io), 51 IO, DIFFIO_B5n (io), 52 IO, DIFFIO_B6p (io), 53 IO, DIFFIO_B6n (io), 55 IO, DIFFIO_B7p (io), 57 IO, DIFFIO_B7n (io), 58 IO, DIFFIO_B8p (io), 59 IO, DIFFIO_B8n (io), 60 IO, DEV_OE, DIFFIO_B9p (io), 61 IO, DEV_CLRn, DIFFIO_B9n (io), 62 IO, DIFFIO_B10p (io), 63 IO, DIFFIO_B10n (io), 66 IO, DIFFIO_B11p (io), 67 IO, DIFFIO_B11n (io), 68 IO (io), 69 IO (io), 70 IO (io), 71 IO, DIFFIO_B12p (io), 72 IO, DIFFIO_B12n (io)
part E pins: 33 TMS (in), 34 TDI (in), 35 TCK (in), 36 TDO (out)
part F pins: 9 VCCIO1 (power), 10 GNDIO (power), 11 GNDIO (power), 17 GNDINT (power), 19 VCCINT (power), 25 VCCIO1 (power), 26 GNDIO (power), 46 VCCIO4 (power), 47 GNDIO (power), 54 GNDINT (power), 56 VCCINT (power), 64 VCCIO4 (power), 65 GNDIO (power), 78 GNDIO (power), 82 VCCIO3 (power), 83 GNDIO (power), 90 VCCINT (power), 92 GNDINT (power), 99 GNDIO (power), 100 VCCIO3 (power), 115 GNDIO (power), 116 VCCIO2 (power), 126 VCCINT (power), 128 GNDINT (power), 135 GNDIO (power), 136 VCCIO2 (power)
part A text: BANK 1
part B text: BANK 2
part C text: BANK 3
part D text: BANK 4

## 5M1270ZT144C5
designator U?
MAX V 1.8V CPLD, 114 IOs, 1270 Logic Elements, 144-Pin TQFP, Commercial Temperature, Speed Grade 5; DatasheetVersion: ver1.2, May-2011; PackageVersion: ver1.0, Jul-2011; PackageReference: TQFP144_A-160; PackageDescription: 144-Pin Plastic Thin Quad Flat Pack (TQFP) - Wire Bond - A:1.60; Code_JEDEC: MS-029-BFB; ComponentLink1Description: Manufacturer URL; ComponentLink1URL: http://www.altera.com/; ComponentLink2Description: Datasheet; ComponentLink2URL: http://www.altera.com/literature/hb/max-v/max5_handbook.pdf; ComponentLink3Description: MAX V Device Pin-Out files; ComponentLink3URL: http://www.altera.com/literature/lit-dp.jsp?category=MAX%205&showspreadsheet=y; ComponentLink4Description: Package Specification; ComponentLink4URL: http://www.altera.com/devicepackaging/04R00366-01.pdf
footprint TQFP144_A-160_N (Thin QFP, 144-Leads, Body 20x20mm, Pitch 0.5mm, IPC Medium Density)
footprint TQFP144_A-160_L (Thin QFP, 144-Leads, Body 20x20mm, Pitch 0.5mm, IPC High Density)
footprint TQFP144_A-160_M (Thin QFP, 144-Leads, Body 20x20mm, Pitch 0.5mm, IPC Low Density)
part A pins: 1 IO (io), 2 IO, DIFFIO_L1p (io), 3 IO, DIFFIO_L1n (io), 4 IO, DIFFIO_L2p (io), 5 IO, DIFFIO_L2n (io), 6 IO (io), 7 IO, DIFFIO_L3p (io), 8 IO, DIFFIO_L3n (io), 12 IO (io), 13 IO, DIFFIO_L4p (io), 14 IO, DIFFIO_L4n (io), 15 IO, DIFFIO_L5p (io), 16 IO, DIFFIO_L5n (io), 18 IO, CLK0 (io), 20 IO, CLK1 (io), 21 IO, DIFFIO_L6p (io), 22 IO, DIFFIO_L6n (io), 23 IO, DIFFIO_L7p (io), 24 IO, DIFFIO_L7n (io), 27 IO (io), 28 IO (io), 29 IO, DIFFIO_L8p (io), 30 IO, DIFFIO_L8n (io), 31 IO, DIFFIO_L9p (io), 32 IO, DIFFIO_L9n (io)
part B pins: 109 IO, DIFFIO_T9n (io), 110 IO, DIFFIO_T9p (io), 111 IO (io), 112 IO (io), 113 IO (io), 114 IO (io), 117 IO, DIFFIO_T8n (io), 118 IO, DIFFIO_T8p (io), 119 IO (io), 120 IO (io), 121 IO, DIFFIO_T7n (io), 122 IO, DIFFIO_T7p (io), 123 IO, DIFFIO_T6n (io), 124 IO, DIFFIO_T6p (io), 125 IO, DIFFIO_T5n (io), 127 IO, DIFFIO_T5p (io), 129 IO, DIFFIO_T4n (io), 130 IO, DIFFIO_T4p (io), 131 IO (io), 132 IO, DIFFIO_T3n (io), 133 IO, DIFFIO_T3p (io), 134 IO (io), 137 IO (io), 138 IO, DIFFIO_T2n (io), 139 IO, DIFFIO_T2p (io), 140 IO, DIFFIO_T1n (io), 141 IO, DIFFIO_T1p (io), 142 IO (io), 143 IO (io), 144 IO (io)
part C pins: 73 IO, DIFFIO_R12n (io), 74 IO, DIFFIO_R12p (io), 75 IO (io), 76 IO, DIFFIO_R11n (io), 77 IO, DIFFIO_R11p (io), 79 IO, DIFFIO_R10n (io), 80 IO, DIFFIO_R10p (io), 81 IO, DIFFIO_R9n (io), 84 IO, DIFFIO_R9p (io), 85 IO, DIFFIO_R8n (io), 86 IO, DIFFIO_R8p (io), 87 IO, DIFFIO_R7n (io), 88 IO, DIFFIO_R7p (io), 89 IO, CLK2 (io), 91 IO, CLK3 (io), 93 IO, DIFFIO_R6n (io), 94 IO, DIFFIO_R6p (io), 95 IO, DIFFIO_R5n (io), 96 IO, DIFFIO_R5p (io), 97 IO, DIFFIO_R4n (io), 98 IO, DIFFIO_R4p (io), 101 IO, DIFFIO_R3n (io), 102 IO, DIFFIO_R3p (io), 103 IO (io), 104 IO, DIFFIO_R2n (io), 105 IO, DIFFIO_R2p (io), 106 IO, DIFFIO_R1n (io), 107 IO, DIFFIO_R1p (io), 108 IO (io)
part D pins: 37 IO (io), 38 IO, DIFFIO_B1p (io), 39 IO, DIFFIO_B1n (io), 40 IO, DIFFIO_B2p (io), 41 IO, DIFFIO_B2n (io), 42 IO (io), 43 IO, DIFFIO_B3p (io), 44 IO, DIFFIO_B3n (io), 45 IO (io), 48 IO, DIFFIO_B4p (io), 49 IO, DIFFIO_B4n (io), 50 IO, DIFFIO_B5p (io), 51 IO, DIFFIO_B5n (io), 52 IO, DIFFIO_B6p (io), 53 IO, DIFFIO_B6n (io), 55 IO, DIFFIO_B7p (io), 57 IO, DIFFIO_B7n (io), 58 IO, DIFFIO_B8p (io), 59 IO, DIFFIO_B8n (io), 60 IO, DEV_OE, DIFFIO_B9p (io), 61 IO, DEV_CLRn, DIFFIO_B9n (io), 62 IO, DIFFIO_B10p (io), 63 IO, DIFFIO_B10n (io), 66 IO, DIFFIO_B11p (io), 67 IO, DIFFIO_B11n (io), 68 IO (io), 69 IO (io), 70 IO (io), 71 IO, DIFFIO_B12p (io), 72 IO, DIFFIO_B12n (io)
part E pins: 33 TMS (in), 34 TDI (in), 35 TCK (in), 36 TDO (out)
part F pins: 9 VCCIO1 (power), 10 GNDIO (power), 11 GNDIO (power), 17 GNDINT (power), 19 VCCINT (power), 25 VCCIO1 (power), 26 GNDIO (power), 46 VCCIO4 (power), 47 GNDIO (power), 54 GNDINT (power), 56 VCCINT (power), 64 VCCIO4 (power), 65 GNDIO (power), 78 GNDIO (power), 82 VCCIO3 (power), 83 GNDIO (power), 90 VCCINT (power), 92 GNDINT (power), 99 GNDIO (power), 100 VCCIO3 (power), 115 GNDIO (power), 116 VCCIO2 (power), 126 VCCINT (power), 128 GNDINT (power), 135 GNDIO (power), 136 VCCIO2 (power)
part A text: BANK 1
part B text: BANK 2
part C text: BANK 3
part D text: BANK 4

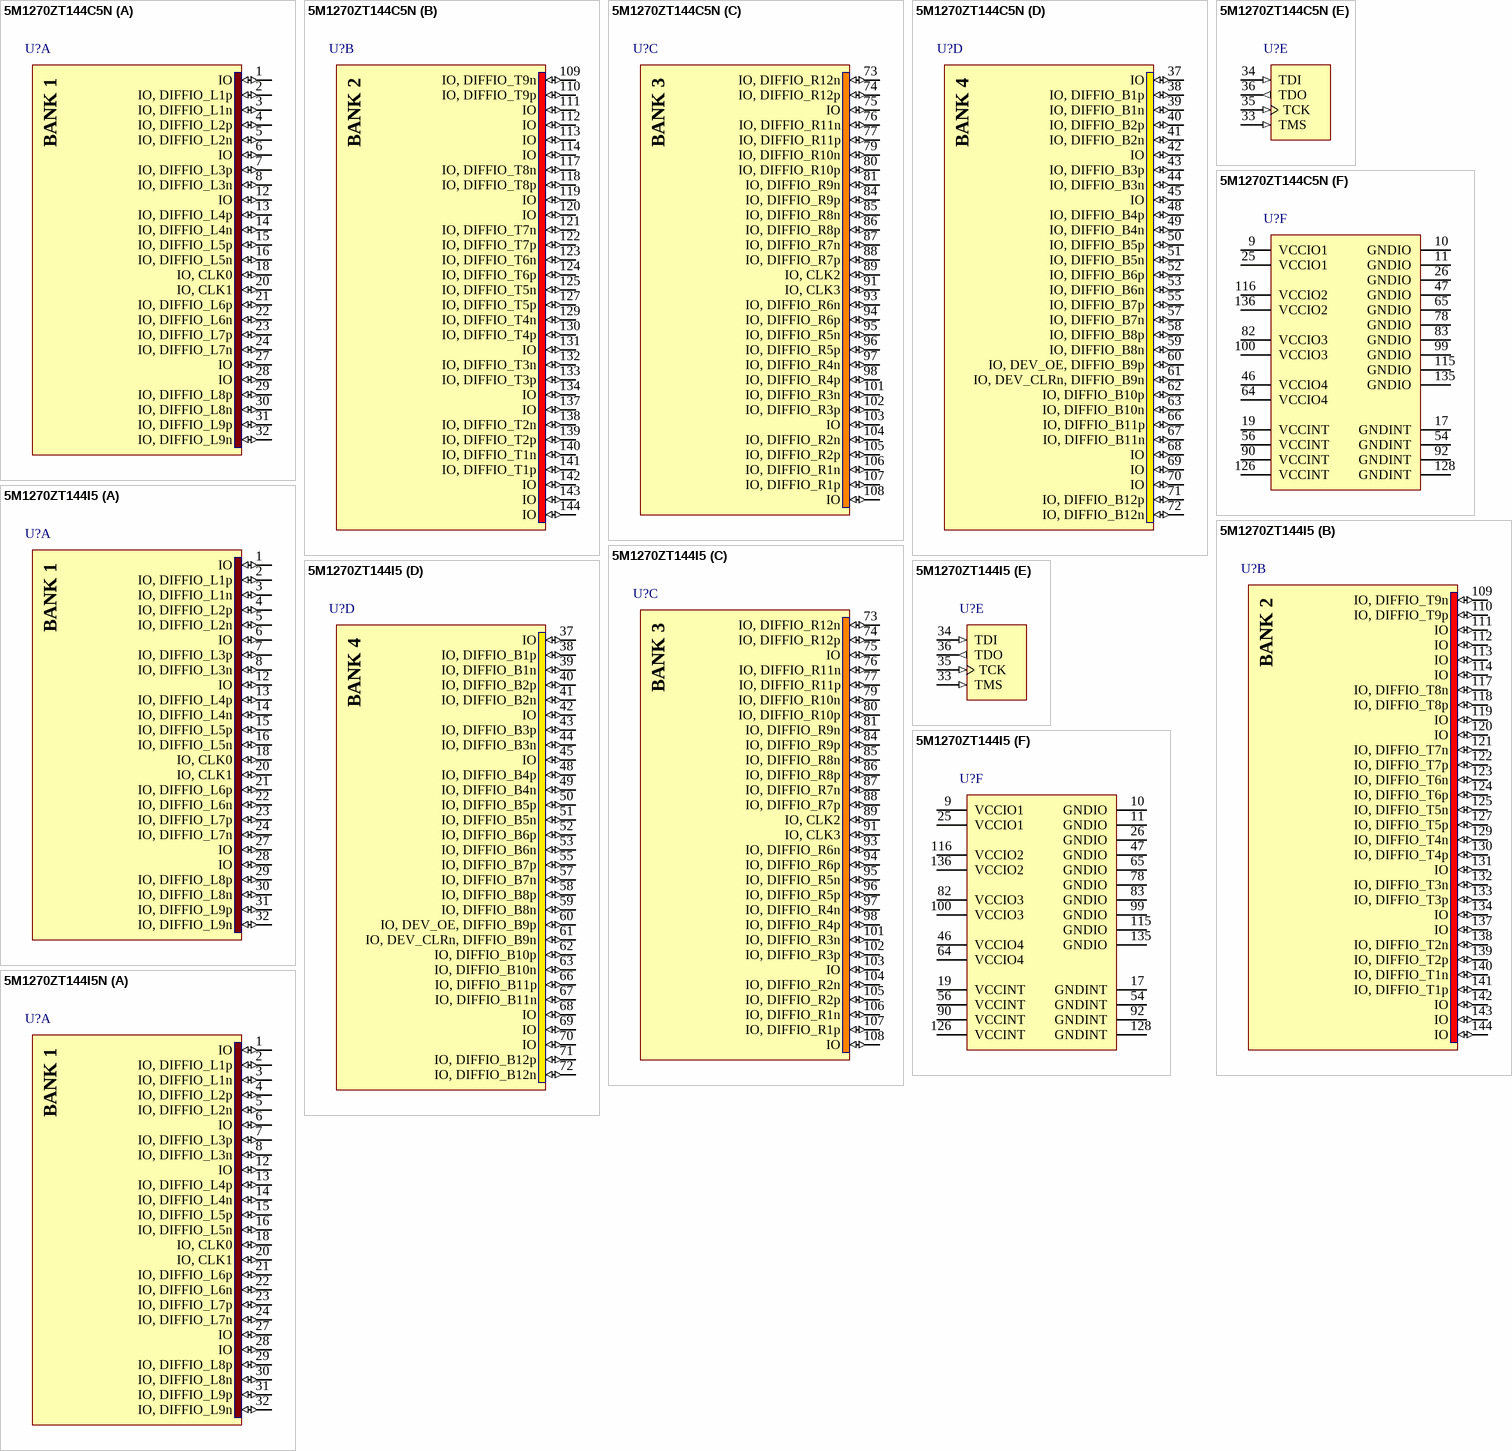
[diagram p61: symbols 5M1270ZT144C5N to 5M1270ZT144I5N]

## 5M1270ZT144C5N
designator U?
MAX V 1.8V CPLD, 114 IOs, 1270 Logic Elements, 144-Pin TQFP, Commercial Temperature, Speed Grade 5, Pb-Free; DatasheetVersion: ver1.2, May-2011; PackageVersion: ver1.0, Jul-2011; PackageReference: TQFP144_A-160; PackageDescription: 144-Pin Plastic Thin Quad Flat Pack (TQFP) - Wire Bond - A:1.60; Code_JEDEC: MS-029-BFB; ComponentLink1Description: Manufacturer URL; ComponentLink1URL: http://www.altera.com/; ComponentLink2Description: Datasheet; ComponentLink2URL: http://www.altera.com/literature/hb/max-v/max5_handbook.pdf; ComponentLink3Description: MAX V Device Pin-Out files; ComponentLink3URL: http://www.altera.com/literature/lit-dp.jsp?category=MAX%205&showspreadsheet=y; ComponentLink4Description: Package Specification; ComponentLink4URL: http://www.altera.com/devicepackaging/04R00366-01.pdf
footprint TQFP144_A-160_N (Thin QFP, 144-Leads, Body 20x20mm, Pitch 0.5mm, IPC Medium Density)
footprint TQFP144_A-160_L (Thin QFP, 144-Leads, Body 20x20mm, Pitch 0.5mm, IPC High Density)
footprint TQFP144_A-160_M (Thin QFP, 144-Leads, Body 20x20mm, Pitch 0.5mm, IPC Low Density)
part A pins: 1 IO (io), 2 IO, DIFFIO_L1p (io), 3 IO, DIFFIO_L1n (io), 4 IO, DIFFIO_L2p (io), 5 IO, DIFFIO_L2n (io), 6 IO (io), 7 IO, DIFFIO_L3p (io), 8 IO, DIFFIO_L3n (io), 12 IO (io), 13 IO, DIFFIO_L4p (io), 14 IO, DIFFIO_L4n (io), 15 IO, DIFFIO_L5p (io), 16 IO, DIFFIO_L5n (io), 18 IO, CLK0 (io), 20 IO, CLK1 (io), 21 IO, DIFFIO_L6p (io), 22 IO, DIFFIO_L6n (io), 23 IO, DIFFIO_L7p (io), 24 IO, DIFFIO_L7n (io), 27 IO (io), 28 IO (io), 29 IO, DIFFIO_L8p (io), 30 IO, DIFFIO_L8n (io), 31 IO, DIFFIO_L9p (io), 32 IO, DIFFIO_L9n (io)
part B pins: 109 IO, DIFFIO_T9n (io), 110 IO, DIFFIO_T9p (io), 111 IO (io), 112 IO (io), 113 IO (io), 114 IO (io), 117 IO, DIFFIO_T8n (io), 118 IO, DIFFIO_T8p (io), 119 IO (io), 120 IO (io), 121 IO, DIFFIO_T7n (io), 122 IO, DIFFIO_T7p (io), 123 IO, DIFFIO_T6n (io), 124 IO, DIFFIO_T6p (io), 125 IO, DIFFIO_T5n (io), 127 IO, DIFFIO_T5p (io), 129 IO, DIFFIO_T4n (io), 130 IO, DIFFIO_T4p (io), 131 IO (io), 132 IO, DIFFIO_T3n (io), 133 IO, DIFFIO_T3p (io), 134 IO (io), 137 IO (io), 138 IO, DIFFIO_T2n (io), 139 IO, DIFFIO_T2p (io), 140 IO, DIFFIO_T1n (io), 141 IO, DIFFIO_T1p (io), 142 IO (io), 143 IO (io), 144 IO (io)
part C pins: 73 IO, DIFFIO_R12n (io), 74 IO, DIFFIO_R12p (io), 75 IO (io), 76 IO, DIFFIO_R11n (io), 77 IO, DIFFIO_R11p (io), 79 IO, DIFFIO_R10n (io), 80 IO, DIFFIO_R10p (io), 81 IO, DIFFIO_R9n (io), 84 IO, DIFFIO_R9p (io), 85 IO, DIFFIO_R8n (io), 86 IO, DIFFIO_R8p (io), 87 IO, DIFFIO_R7n (io), 88 IO, DIFFIO_R7p (io), 89 IO, CLK2 (io), 91 IO, CLK3 (io), 93 IO, DIFFIO_R6n (io), 94 IO, DIFFIO_R6p (io), 95 IO, DIFFIO_R5n (io), 96 IO, DIFFIO_R5p (io), 97 IO, DIFFIO_R4n (io), 98 IO, DIFFIO_R4p (io), 101 IO, DIFFIO_R3n (io), 102 IO, DIFFIO_R3p (io), 103 IO (io), 104 IO, DIFFIO_R2n (io), 105 IO, DIFFIO_R2p (io), 106 IO, DIFFIO_R1n (io), 107 IO, DIFFIO_R1p (io), 108 IO (io)
part D pins: 37 IO (io), 38 IO, DIFFIO_B1p (io), 39 IO, DIFFIO_B1n (io), 40 IO, DIFFIO_B2p (io), 41 IO, DIFFIO_B2n (io), 42 IO (io), 43 IO, DIFFIO_B3p (io), 44 IO, DIFFIO_B3n (io), 45 IO (io), 48 IO, DIFFIO_B4p (io), 49 IO, DIFFIO_B4n (io), 50 IO, DIFFIO_B5p (io), 51 IO, DIFFIO_B5n (io), 52 IO, DIFFIO_B6p (io), 53 IO, DIFFIO_B6n (io), 55 IO, DIFFIO_B7p (io), 57 IO, DIFFIO_B7n (io), 58 IO, DIFFIO_B8p (io), 59 IO, DIFFIO_B8n (io), 60 IO, DEV_OE, DIFFIO_B9p (io), 61 IO, DEV_CLRn, DIFFIO_B9n (io), 62 IO, DIFFIO_B10p (io), 63 IO, DIFFIO_B10n (io), 66 IO, DIFFIO_B11p (io), 67 IO, DIFFIO_B11n (io), 68 IO (io), 69 IO (io), 70 IO (io), 71 IO, DIFFIO_B12p (io), 72 IO, DIFFIO_B12n (io)
part E pins: 33 TMS (in), 34 TDI (in), 35 TCK (in), 36 TDO (out)
part F pins: 9 VCCIO1 (power), 10 GNDIO (power), 11 GNDIO (power), 17 GNDINT (power), 19 VCCINT (power), 25 VCCIO1 (power), 26 GNDIO (power), 46 VCCIO4 (power), 47 GNDIO (power), 54 GNDINT (power), 56 VCCINT (power), 64 VCCIO4 (power), 65 GNDIO (power), 78 GNDIO (power), 82 VCCIO3 (power), 83 GNDIO (power), 90 VCCINT (power), 92 GNDINT (power), 99 GNDIO (power), 100 VCCIO3 (power), 115 GNDIO (power), 116 VCCIO2 (power), 126 VCCINT (power), 128 GNDINT (power), 135 GNDIO (power), 136 VCCIO2 (power)
part A text: BANK 1
part B text: BANK 2
part C text: BANK 3
part D text: BANK 4

## 5M1270ZT144I5
designator U?
MAX V 1.8V CPLD, 114 IOs, 1270 Logic Elements, 144-Pin TQFP, Industrial Temperature, Speed Grade 5; DatasheetVersion: ver1.2, May-2011; PackageVersion: ver1.0, Jul-2011; PackageReference: TQFP144_A-160; PackageDescription: 144-Pin Plastic Thin Quad Flat Pack (TQFP) - Wire Bond - A:1.60; Code_JEDEC: MS-029-BFB; ComponentLink1Description: Manufacturer URL; ComponentLink1URL: http://www.altera.com/; ComponentLink2Description: Datasheet; ComponentLink2URL: http://www.altera.com/literature/hb/max-v/max5_handbook.pdf; ComponentLink3Description: MAX V Device Pin-Out files; ComponentLink3URL: http://www.altera.com/literature/lit-dp.jsp?category=MAX%205&showspreadsheet=y; ComponentLink4Description: Package Specification; ComponentLink4URL: http://www.altera.com/devicepackaging/04R00366-01.pdf
footprint TQFP144_A-160_N (Thin QFP, 144-Leads, Body 20x20mm, Pitch 0.5mm, IPC Medium Density)
footprint TQFP144_A-160_L (Thin QFP, 144-Leads, Body 20x20mm, Pitch 0.5mm, IPC High Density)
footprint TQFP144_A-160_M (Thin QFP, 144-Leads, Body 20x20mm, Pitch 0.5mm, IPC Low Density)
part A pins: 1 IO (io), 2 IO, DIFFIO_L1p (io), 3 IO, DIFFIO_L1n (io), 4 IO, DIFFIO_L2p (io), 5 IO, DIFFIO_L2n (io), 6 IO (io), 7 IO, DIFFIO_L3p (io), 8 IO, DIFFIO_L3n (io), 12 IO (io), 13 IO, DIFFIO_L4p (io), 14 IO, DIFFIO_L4n (io), 15 IO, DIFFIO_L5p (io), 16 IO, DIFFIO_L5n (io), 18 IO, CLK0 (io), 20 IO, CLK1 (io), 21 IO, DIFFIO_L6p (io), 22 IO, DIFFIO_L6n (io), 23 IO, DIFFIO_L7p (io), 24 IO, DIFFIO_L7n (io), 27 IO (io), 28 IO (io), 29 IO, DIFFIO_L8p (io), 30 IO, DIFFIO_L8n (io), 31 IO, DIFFIO_L9p (io), 32 IO, DIFFIO_L9n (io)
part B pins: 109 IO, DIFFIO_T9n (io), 110 IO, DIFFIO_T9p (io), 111 IO (io), 112 IO (io), 113 IO (io), 114 IO (io), 117 IO, DIFFIO_T8n (io), 118 IO, DIFFIO_T8p (io), 119 IO (io), 120 IO (io), 121 IO, DIFFIO_T7n (io), 122 IO, DIFFIO_T7p (io), 123 IO, DIFFIO_T6n (io), 124 IO, DIFFIO_T6p (io), 125 IO, DIFFIO_T5n (io), 127 IO, DIFFIO_T5p (io), 129 IO, DIFFIO_T4n (io), 130 IO, DIFFIO_T4p (io), 131 IO (io), 132 IO, DIFFIO_T3n (io), 133 IO, DIFFIO_T3p (io), 134 IO (io), 137 IO (io), 138 IO, DIFFIO_T2n (io), 139 IO, DIFFIO_T2p (io), 140 IO, DIFFIO_T1n (io), 141 IO, DIFFIO_T1p (io), 142 IO (io), 143 IO (io), 144 IO (io)
part C pins: 73 IO, DIFFIO_R12n (io), 74 IO, DIFFIO_R12p (io), 75 IO (io), 76 IO, DIFFIO_R11n (io), 77 IO, DIFFIO_R11p (io), 79 IO, DIFFIO_R10n (io), 80 IO, DIFFIO_R10p (io), 81 IO, DIFFIO_R9n (io), 84 IO, DIFFIO_R9p (io), 85 IO, DIFFIO_R8n (io), 86 IO, DIFFIO_R8p (io), 87 IO, DIFFIO_R7n (io), 88 IO, DIFFIO_R7p (io), 89 IO, CLK2 (io), 91 IO, CLK3 (io), 93 IO, DIFFIO_R6n (io), 94 IO, DIFFIO_R6p (io), 95 IO, DIFFIO_R5n (io), 96 IO, DIFFIO_R5p (io), 97 IO, DIFFIO_R4n (io), 98 IO, DIFFIO_R4p (io), 101 IO, DIFFIO_R3n (io), 102 IO, DIFFIO_R3p (io), 103 IO (io), 104 IO, DIFFIO_R2n (io), 105 IO, DIFFIO_R2p (io), 106 IO, DIFFIO_R1n (io), 107 IO, DIFFIO_R1p (io), 108 IO (io)
part D pins: 37 IO (io), 38 IO, DIFFIO_B1p (io), 39 IO, DIFFIO_B1n (io), 40 IO, DIFFIO_B2p (io), 41 IO, DIFFIO_B2n (io), 42 IO (io), 43 IO, DIFFIO_B3p (io), 44 IO, DIFFIO_B3n (io), 45 IO (io), 48 IO, DIFFIO_B4p (io), 49 IO, DIFFIO_B4n (io), 50 IO, DIFFIO_B5p (io), 51 IO, DIFFIO_B5n (io), 52 IO, DIFFIO_B6p (io), 53 IO, DIFFIO_B6n (io), 55 IO, DIFFIO_B7p (io), 57 IO, DIFFIO_B7n (io), 58 IO, DIFFIO_B8p (io), 59 IO, DIFFIO_B8n (io), 60 IO, DEV_OE, DIFFIO_B9p (io), 61 IO, DEV_CLRn, DIFFIO_B9n (io), 62 IO, DIFFIO_B10p (io), 63 IO, DIFFIO_B10n (io), 66 IO, DIFFIO_B11p (io), 67 IO, DIFFIO_B11n (io), 68 IO (io), 69 IO (io), 70 IO (io), 71 IO, DIFFIO_B12p (io), 72 IO, DIFFIO_B12n (io)
part E pins: 33 TMS (in), 34 TDI (in), 35 TCK (in), 36 TDO (out)
part F pins: 9 VCCIO1 (power), 10 GNDIO (power), 11 GNDIO (power), 17 GNDINT (power), 19 VCCINT (power), 25 VCCIO1 (power), 26 GNDIO (power), 46 VCCIO4 (power), 47 GNDIO (power), 54 GNDINT (power), 56 VCCINT (power), 64 VCCIO4 (power), 65 GNDIO (power), 78 GNDIO (power), 82 VCCIO3 (power), 83 GNDIO (power), 90 VCCINT (power), 92 GNDINT (power), 99 GNDIO (power), 100 VCCIO3 (power), 115 GNDIO (power), 116 VCCIO2 (power), 126 VCCINT (power), 128 GNDINT (power), 135 GNDIO (power), 136 VCCIO2 (power)
part A text: BANK 1
part B text: BANK 2
part C text: BANK 3
part D text: BANK 4

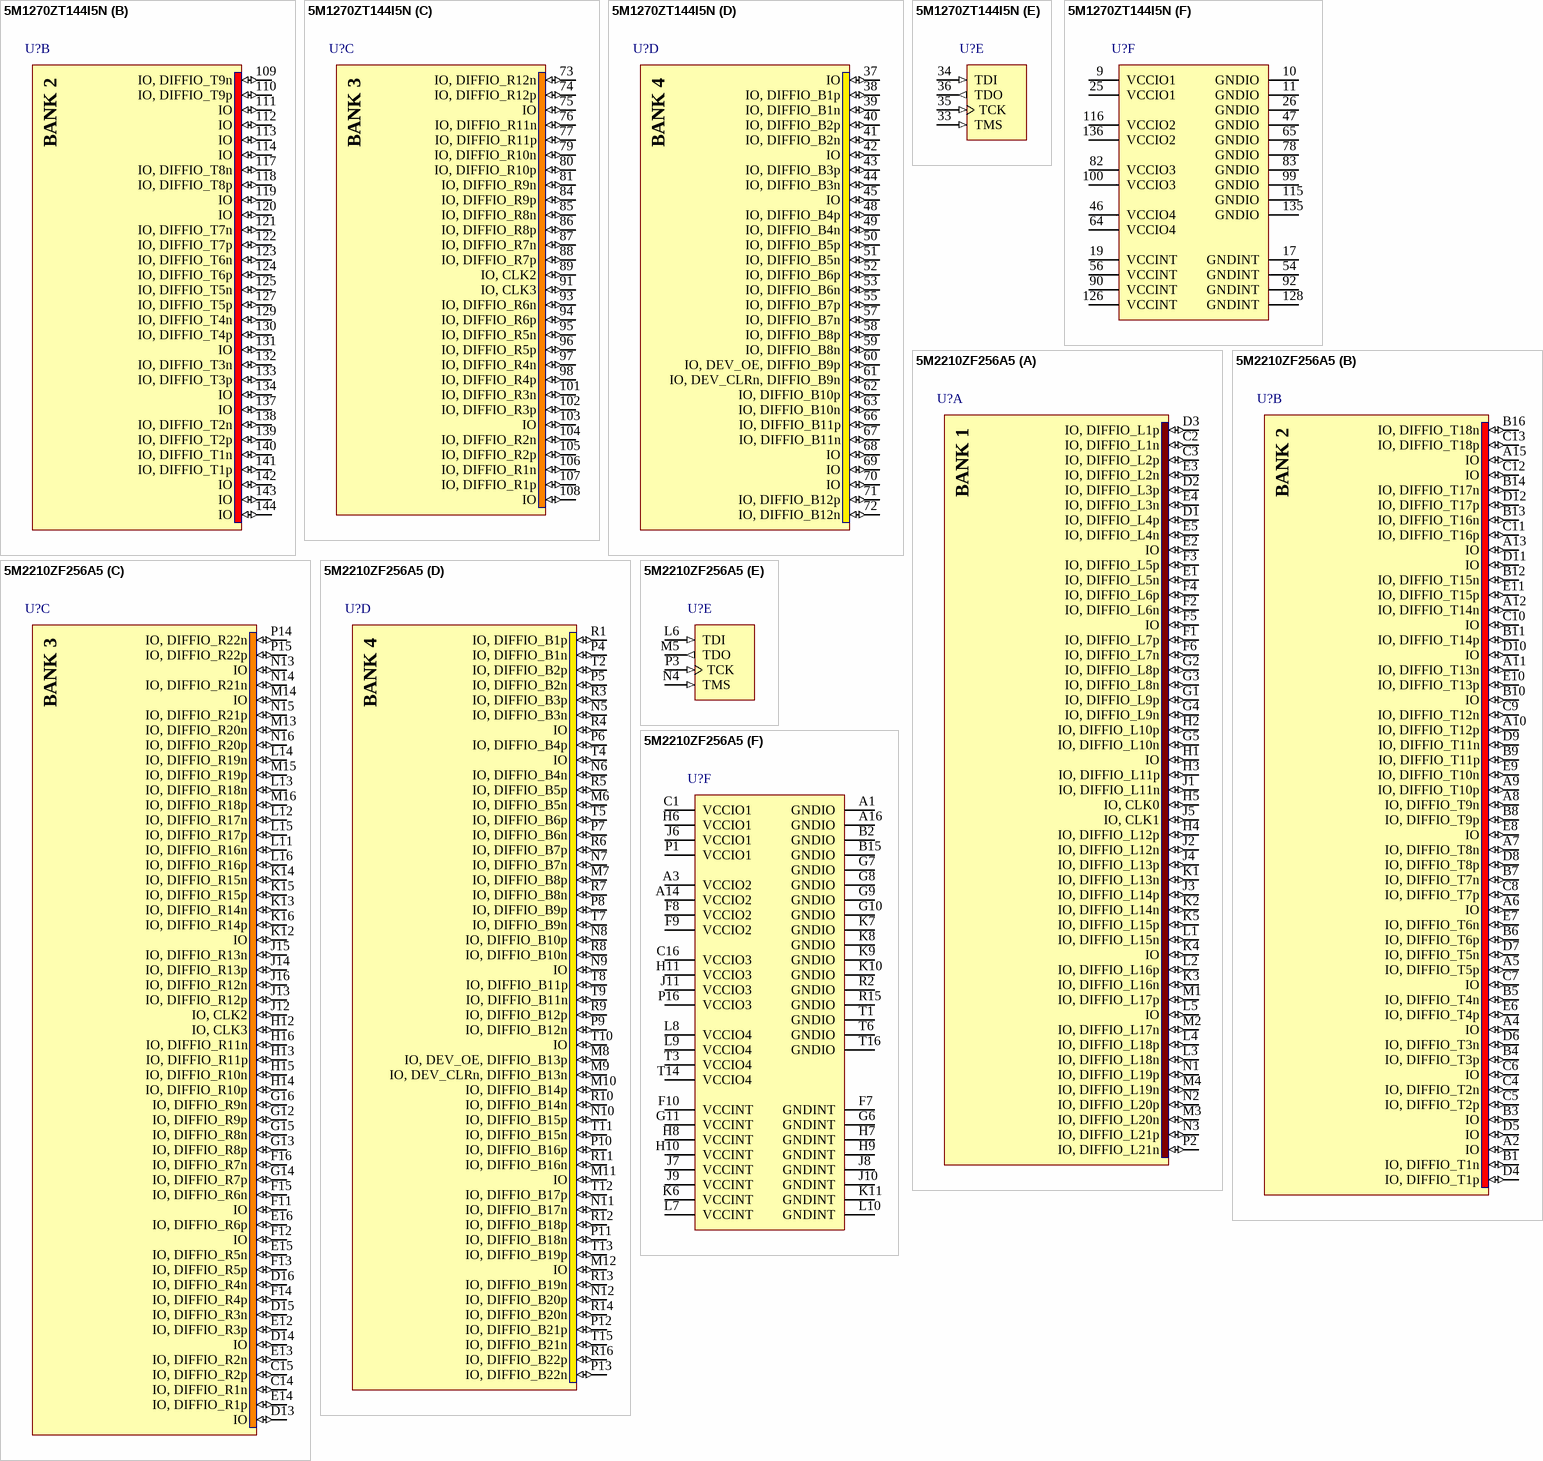
[diagram p62: symbols 5M1270ZT144I5N to 5M2210ZF256A5]

## 5M1270ZT144I5N
designator U?
MAX V 1.8V CPLD, 114 IOs, 1270 Logic Elements, 144-Pin TQFP, Industrial Temperature, Speed Grade 5, Pb-Free; DatasheetVersion: ver1.2, May-2011; PackageVersion: ver1.0, Jul-2011; PackageReference: TQFP144_A-160; PackageDescription: 144-Pin Plastic Thin Quad Flat Pack (TQFP) - Wire Bond - A:1.60; Code_JEDEC: MS-029-BFB; ComponentLink1Description: Manufacturer URL; ComponentLink1URL: http://www.altera.com/; ComponentLink2Description: Datasheet; ComponentLink2URL: http://www.altera.com/literature/hb/max-v/max5_handbook.pdf; ComponentLink3Description: MAX V Device Pin-Out files; ComponentLink3URL: http://www.altera.com/literature/lit-dp.jsp?category=MAX%205&showspreadsheet=y; ComponentLink4Description: Package Specification; ComponentLink4URL: http://www.altera.com/devicepackaging/04R00366-01.pdf
footprint TQFP144_A-160_N (Thin QFP, 144-Leads, Body 20x20mm, Pitch 0.5mm, IPC Medium Density)
footprint TQFP144_A-160_L (Thin QFP, 144-Leads, Body 20x20mm, Pitch 0.5mm, IPC High Density)
footprint TQFP144_A-160_M (Thin QFP, 144-Leads, Body 20x20mm, Pitch 0.5mm, IPC Low Density)
part A pins: 1 IO (io), 2 IO, DIFFIO_L1p (io), 3 IO, DIFFIO_L1n (io), 4 IO, DIFFIO_L2p (io), 5 IO, DIFFIO_L2n (io), 6 IO (io), 7 IO, DIFFIO_L3p (io), 8 IO, DIFFIO_L3n (io), 12 IO (io), 13 IO, DIFFIO_L4p (io), 14 IO, DIFFIO_L4n (io), 15 IO, DIFFIO_L5p (io), 16 IO, DIFFIO_L5n (io), 18 IO, CLK0 (io), 20 IO, CLK1 (io), 21 IO, DIFFIO_L6p (io), 22 IO, DIFFIO_L6n (io), 23 IO, DIFFIO_L7p (io), 24 IO, DIFFIO_L7n (io), 27 IO (io), 28 IO (io), 29 IO, DIFFIO_L8p (io), 30 IO, DIFFIO_L8n (io), 31 IO, DIFFIO_L9p (io), 32 IO, DIFFIO_L9n (io)
part B pins: 109 IO, DIFFIO_T9n (io), 110 IO, DIFFIO_T9p (io), 111 IO (io), 112 IO (io), 113 IO (io), 114 IO (io), 117 IO, DIFFIO_T8n (io), 118 IO, DIFFIO_T8p (io), 119 IO (io), 120 IO (io), 121 IO, DIFFIO_T7n (io), 122 IO, DIFFIO_T7p (io), 123 IO, DIFFIO_T6n (io), 124 IO, DIFFIO_T6p (io), 125 IO, DIFFIO_T5n (io), 127 IO, DIFFIO_T5p (io), 129 IO, DIFFIO_T4n (io), 130 IO, DIFFIO_T4p (io), 131 IO (io), 132 IO, DIFFIO_T3n (io), 133 IO, DIFFIO_T3p (io), 134 IO (io), 137 IO (io), 138 IO, DIFFIO_T2n (io), 139 IO, DIFFIO_T2p (io), 140 IO, DIFFIO_T1n (io), 141 IO, DIFFIO_T1p (io), 142 IO (io), 143 IO (io), 144 IO (io)
part C pins: 73 IO, DIFFIO_R12n (io), 74 IO, DIFFIO_R12p (io), 75 IO (io), 76 IO, DIFFIO_R11n (io), 77 IO, DIFFIO_R11p (io), 79 IO, DIFFIO_R10n (io), 80 IO, DIFFIO_R10p (io), 81 IO, DIFFIO_R9n (io), 84 IO, DIFFIO_R9p (io), 85 IO, DIFFIO_R8n (io), 86 IO, DIFFIO_R8p (io), 87 IO, DIFFIO_R7n (io), 88 IO, DIFFIO_R7p (io), 89 IO, CLK2 (io), 91 IO, CLK3 (io), 93 IO, DIFFIO_R6n (io), 94 IO, DIFFIO_R6p (io), 95 IO, DIFFIO_R5n (io), 96 IO, DIFFIO_R5p (io), 97 IO, DIFFIO_R4n (io), 98 IO, DIFFIO_R4p (io), 101 IO, DIFFIO_R3n (io), 102 IO, DIFFIO_R3p (io), 103 IO (io), 104 IO, DIFFIO_R2n (io), 105 IO, DIFFIO_R2p (io), 106 IO, DIFFIO_R1n (io), 107 IO, DIFFIO_R1p (io), 108 IO (io)
part D pins: 37 IO (io), 38 IO, DIFFIO_B1p (io), 39 IO, DIFFIO_B1n (io), 40 IO, DIFFIO_B2p (io), 41 IO, DIFFIO_B2n (io), 42 IO (io), 43 IO, DIFFIO_B3p (io), 44 IO, DIFFIO_B3n (io), 45 IO (io), 48 IO, DIFFIO_B4p (io), 49 IO, DIFFIO_B4n (io), 50 IO, DIFFIO_B5p (io), 51 IO, DIFFIO_B5n (io), 52 IO, DIFFIO_B6p (io), 53 IO, DIFFIO_B6n (io), 55 IO, DIFFIO_B7p (io), 57 IO, DIFFIO_B7n (io), 58 IO, DIFFIO_B8p (io), 59 IO, DIFFIO_B8n (io), 60 IO, DEV_OE, DIFFIO_B9p (io), 61 IO, DEV_CLRn, DIFFIO_B9n (io), 62 IO, DIFFIO_B10p (io), 63 IO, DIFFIO_B10n (io), 66 IO, DIFFIO_B11p (io), 67 IO, DIFFIO_B11n (io), 68 IO (io), 69 IO (io), 70 IO (io), 71 IO, DIFFIO_B12p (io), 72 IO, DIFFIO_B12n (io)
part E pins: 33 TMS (in), 34 TDI (in), 35 TCK (in), 36 TDO (out)
part F pins: 9 VCCIO1 (power), 10 GNDIO (power), 11 GNDIO (power), 17 GNDINT (power), 19 VCCINT (power), 25 VCCIO1 (power), 26 GNDIO (power), 46 VCCIO4 (power), 47 GNDIO (power), 54 GNDINT (power), 56 VCCINT (power), 64 VCCIO4 (power), 65 GNDIO (power), 78 GNDIO (power), 82 VCCIO3 (power), 83 GNDIO (power), 90 VCCINT (power), 92 GNDINT (power), 99 GNDIO (power), 100 VCCIO3 (power), 115 GNDIO (power), 116 VCCIO2 (power), 126 VCCINT (power), 128 GNDINT (power), 135 GNDIO (power), 136 VCCIO2 (power)
part A text: BANK 1
part B text: BANK 2
part C text: BANK 3
part D text: BANK 4

## 5M2210ZF256A5
designator U?
MAX V 1.8V CPLD, 203 IOs, 2210 Logic Elements, 256-Pin FBGA, Automotive Temperature, Speed Grade 5; DatasheetVersion: ver1.2, May-2011; PackageVersion: ver2.0, Nov-2011; PackageReference: FBGA256_A-155; PackageDescription: 256-Pin FineLine Ball-Grid Array (FBGA) - Thin - Wire Bond - A:1.55; Code_JEDEC: MO-192-DAF-1; ComponentLink1Description: Manufacturer URL; ComponentLink1URL: http://www.altera.com/; ComponentLink2Description: Datasheet; ComponentLink2URL: http://www.altera.com/literature/hb/max-v/max5_handbook.pdf; ComponentLink3Description: MAX V Device Pin-Out files; ComponentLink3URL: http://www.altera.com/literature/lit-dp.jsp?category=MAX%205&showspreadsheet=y; ComponentLink4Description: Package Specification; ComponentLink4URL: http://www.altera.com/devicepackaging/04R-00230_03.pdf
footprint FBGA256_A-155 (BGA, 256-Leads, Body 17x17mm, Pitch 1mm)
part A pins: C2 IO, DIFFIO_L1n (io), C3 IO, DIFFIO_L2p (io), D1 IO, DIFFIO_L4p (io), D2 IO, DIFFIO_L3p (io), D3 IO, DIFFIO_L1p (io), E1 IO, DIFFIO_L5n (io), E2 IO (io), E3 IO, DIFFIO_L2n (io), E4 IO, DIFFIO_L3n (io), E5 IO, DIFFIO_L4n (io), F1 IO, DIFFIO_L7p (io), F2 IO, DIFFIO_L6n (io), F3 IO, DIFFIO_L5p (io), F4 IO, DIFFIO_L6p (io), F5 IO (io), F6 IO, DIFFIO_L7n (io), G1 IO, DIFFIO_L9p (io), G2 IO, DIFFIO_L8p (io), G3 IO, DIFFIO_L8n (io), G4 IO, DIFFIO_L9n (io), G5 IO, DIFFIO_L10n (io), H1 IO (io), H2 IO, DIFFIO_L10p (io), H3 IO, DIFFIO_L11p (io), H4 IO, DIFFIO_L12p (io), H5 IO, CLK0 (io), J1 IO, DIFFIO_L11n (io), J2 IO, DIFFIO_L12n (io), J3 IO, DIFFIO_L14p (io), J4 IO, DIFFIO_L13p (io), J5 IO, CLK1 (io), K1 IO, DIFFIO_L13n (io), K2 IO, DIFFIO_L14n (io), K3 IO, DIFFIO_L16n (io), K4 IO (io), K5 IO, DIFFIO_L15p (io), L1 IO, DIFFIO_L15n (io), L2 IO, DIFFIO_L16p (io), L3 IO, DIFFIO_L18n (io), L4 IO, DIFFIO_L18p (io), L5 IO (io), M1 IO, DIFFIO_L17p (io), M2 IO, DIFFIO_L17n (io), M3 IO, DIFFIO_L20n (io), M4 IO, DIFFIO_L19n (io), N1 IO, DIFFIO_L19p (io), N2 IO, DIFFIO_L20p (io), N3 IO, DIFFIO_L21p (io), P2 IO, DIFFIO_L21n (io)
part B pins: A2 IO (io), A4 IO (io), A5 IO, DIFFIO_T5p (io), A6 IO (io), A7 IO, DIFFIO_T8n (io), A8 IO, DIFFIO_T9n (io), A9 IO, DIFFIO_T10p (io), A10 IO, DIFFIO_T12p (io), A11 IO, DIFFIO_T13n (io), A12 IO, DIFFIO_T14n (io), A13 IO (io), A15 IO (io), B1 IO, DIFFIO_T1n (io), B3 IO (io), B4 IO, DIFFIO_T3p (io), B5 IO, DIFFIO_T4n (io), B6 IO, DIFFIO_T6p (io), B7 IO, DIFFIO_T7n (io), B8 IO, DIFFIO_T9p (io), B9 IO, DIFFIO_T11p (io), B10 IO (io), B11 IO, DIFFIO_T14p (io), B12 IO, DIFFIO_T15n (io), B13 IO, DIFFIO_T16n (io), B14 IO, DIFFIO_T17n (io), B16 IO, DIFFIO_T18n (io), C4 IO, DIFFIO_T2n (io), C5 IO, DIFFIO_T2p (io), C6 IO (io), C7 IO (io), C8 IO, DIFFIO_T7p (io), C9 IO, DIFFIO_T12n (io), C10 IO (io), C11 IO, DIFFIO_T16p (io), C12 IO (io), C13 IO, DIFFIO_T18p (io), D4 IO, DIFFIO_T1p (io), D5 IO (io), D6 IO, DIFFIO_T3n (io), D7 IO, DIFFIO_T5n (io), D8 IO, DIFFIO_T8p (io), D9 IO, DIFFIO_T11n (io), D10 IO (io), D11 IO (io), D12 IO, DIFFIO_T17p (io), E6 IO, DIFFIO_T4p (io), E7 IO, DIFFIO_T6n (io), E8 IO (io), E9 IO, DIFFIO_T10n (io), E10 IO, DIFFIO_T13p (io), E11 IO, DIFFIO_T15p (io)
part C pins: C14 IO, DIFFIO_R1n (io), C15 IO, DIFFIO_R2p (io), D13 IO (io), D14 IO (io), D15 IO, DIFFIO_R3n (io), D16 IO, DIFFIO_R4n (io), E12 IO, DIFFIO_R3p (io), E13 IO, DIFFIO_R2n (io), E14 IO, DIFFIO_R1p (io), E15 IO, DIFFIO_R5n (io), E16 IO, DIFFIO_R6p (io), F11 IO (io), F12 IO (io), F13 IO, DIFFIO_R5p (io), F14 IO, DIFFIO_R4p (io), F15 IO, DIFFIO_R6n (io), F16 IO, DIFFIO_R7n (io), G12 IO, DIFFIO_R9p (io), G13 IO, DIFFIO_R8p (io), G14 IO, DIFFIO_R7p (io), G15 IO, DIFFIO_R8n (io), G16 IO, DIFFIO_R9n (io), H12 IO, CLK3 (io), H13 IO, DIFFIO_R11p (io), H14 IO, DIFFIO_R10p (io), H15 IO, DIFFIO_R10n (io), H16 IO, DIFFIO_R11n (io), J12 IO, CLK2 (io), J13 IO, DIFFIO_R12p (io), J14 IO, DIFFIO_R13p (io), J15 IO, DIFFIO_R13n (io), J16 IO, DIFFIO_R12n (io), K12 IO (io), K13 IO, DIFFIO_R14n (io), K14 IO, DIFFIO_R15n (io), K15 IO, DIFFIO_R15p (io), K16 IO, DIFFIO_R14p (io), L11 IO, DIFFIO_R16n (io), L12 IO, DIFFIO_R17n (io), L13 IO, DIFFIO_R18n (io), L14 IO, DIFFIO_R19n (io), L15 IO, DIFFIO_R17p (io), L16 IO, DIFFIO_R16p (io), M13 IO, DIFFIO_R20n (io), M14 IO (io), M15 IO, DIFFIO_R19p (io), M16 IO, DIFFIO_R18p (io), N13 IO (io), N14 IO, DIFFIO_R21n (io), N15 IO, DIFFIO_R21p (io), N16 IO, DIFFIO_R20p (io), P14 IO, DIFFIO_R22n (io), P15 IO, DIFFIO_R22p (io)
part D pins: M6 IO, DIFFIO_B5n (io), M7 IO, DIFFIO_B8p (io), M8 IO, DEV_OE, DIFFIO_B13p (io), M9 IO, DEV_CLRn, DIFFIO_B13n (io), M10 IO, DIFFIO_B14p (io), M11 IO (io), M12 IO (io), N5 IO, DIFFIO_B3n (io), N6 IO, DIFFIO_B4n (io), N7 IO, DIFFIO_B7n (io), N8 IO, DIFFIO_B10p (io), N9 IO (io), N10 IO, DIFFIO_B15p (io), N11 IO, DIFFIO_B17n (io), N12 IO, DIFFIO_B20p (io), P4 IO, DIFFIO_B1n (io), P5 IO, DIFFIO_B2n (io), P6 IO, DIFFIO_B4p (io), P7 IO, DIFFIO_B6n (io), P8 IO, DIFFIO_B9p (io), P9 IO, DIFFIO_B12n (io), P10 IO, DIFFIO_B16p (io), P11 IO, DIFFIO_B18n (io), P12 IO, DIFFIO_B21p (io), P13 IO, DIFFIO_B22n (io), R1 IO, DIFFIO_B1p (io), R3 IO, DIFFIO_B3p (io), R4 IO (io), R5 IO, DIFFIO_B5p (io), R6 IO, DIFFIO_B7p (io), R7 IO, DIFFIO_B8n (io), R8 IO, DIFFIO_B10n (io), R9 IO, DIFFIO_B12p (io), R10 IO, DIFFIO_B14n (io), R11 IO, DIFFIO_B16n (io), R12 IO, DIFFIO_B18p (io), R13 IO, DIFFIO_B19n (io), R14 IO, DIFFIO_B20n (io), R16 IO, DIFFIO_B22p (io), T2 IO, DIFFIO_B2p (io), T4 IO (io), T5 IO, DIFFIO_B6p (io), T7 IO, DIFFIO_B9n (io), T8 IO, DIFFIO_B11p (io), T9 IO, DIFFIO_B11n (io), T10 IO (io), T11 IO, DIFFIO_B15n (io), T12 IO, DIFFIO_B17p (io), T13 IO, DIFFIO_B19p (io), T15 IO, DIFFIO_B21n (io)
part E pins: L6 TDI (in), M5 TDO (out), N4 TMS (in), P3 TCK (in)
part F pins: A1 GNDIO (power), A3 VCCIO2 (power), A14 VCCIO2 (power), A16 GNDIO (power), B2 GNDIO (power), B15 GNDIO (power), C1 VCCIO1 (power), C16 VCCIO3 (power), F7 GNDINT (power), F8 VCCIO2 (power), F9 VCCIO2 (power), F10 VCCINT (power), G6 GNDINT (power), G7 GNDIO (power), G8 GNDIO (power), G9 GNDIO (power), G10 GNDIO (power), G11 VCCINT (power), H6 VCCIO1 (power), H7 GNDINT (power), H8 VCCINT (power), H9 GNDINT (power), H10 VCCINT (power), H11 VCCIO3 (power), J6 VCCIO1 (power), J7 VCCINT (power), J8 GNDINT (power), J9 VCCINT (power), J10 GNDINT (power), J11 VCCIO3 (power), K6 VCCINT (power), K7 GNDIO (power), K8 GNDIO (power), K9 GNDIO (power), K10 GNDIO (power), K11 GNDINT (power), L7 VCCINT (power), L8 VCCIO4 (power), L9 VCCIO4 (power), L10 GNDINT (power), P1 VCCIO1 (power), P16 VCCIO3 (power), R2 GNDIO (power), R15 GNDIO (power), T1 GNDIO (power), T3 VCCIO4 (power), T6 GNDIO (power), T14 VCCIO4 (power), T16 GNDIO (power)
part A text: BANK 1
part B text: BANK 2
part C text: BANK 3
part D text: BANK 4

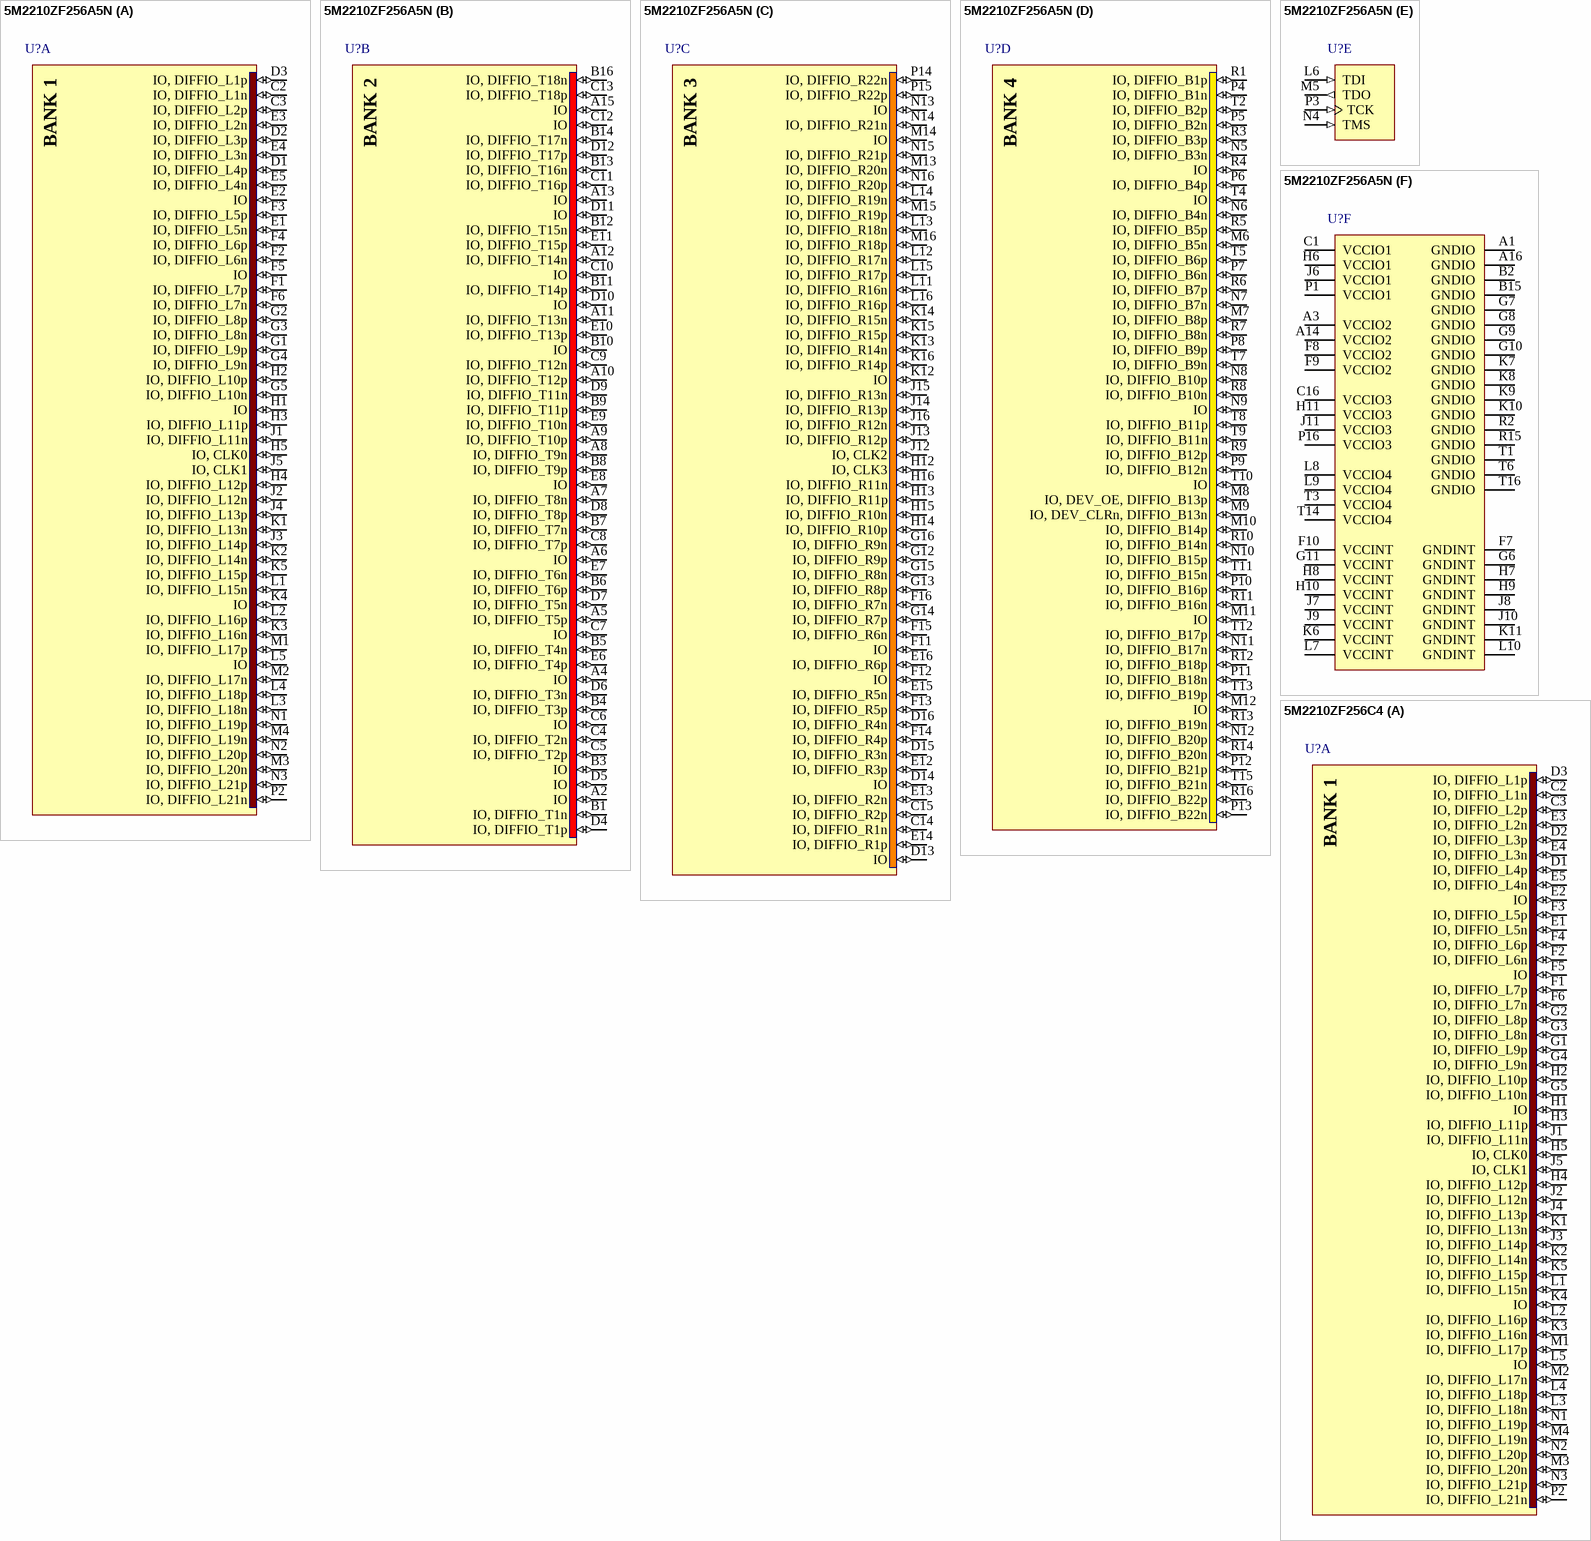
[diagram p63: symbols 5M2210ZF256A5N to 5M2210ZF256C4]